# Altium integrated library lib_st.IntLib: 440 symbols (part 5 of 57)
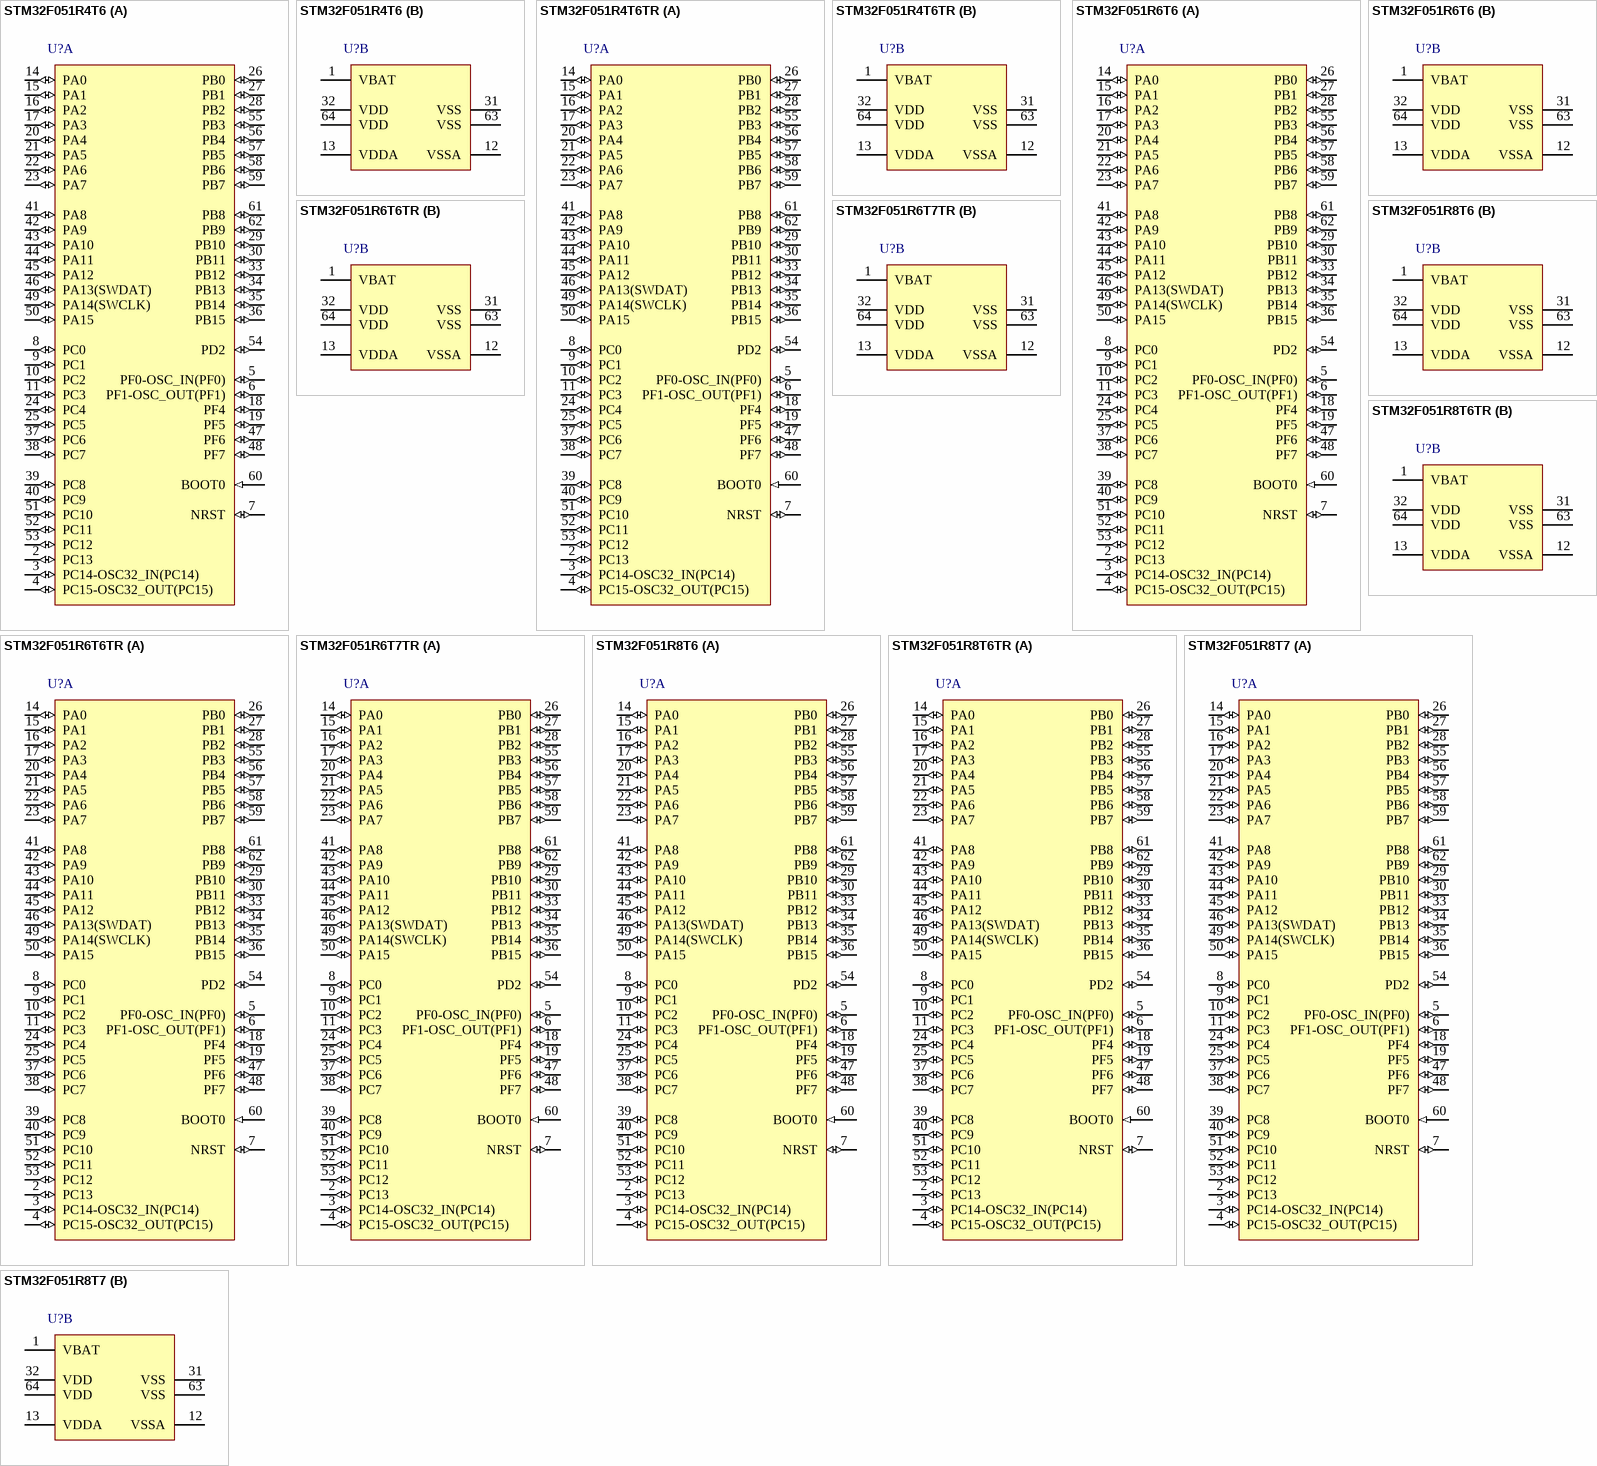
[diagram p93: symbols STM32F051R4T6 to STM32F051R8T7]

## STM32F051R8T7
designator U?
ARM Cortex-M0 32-bit MCU, 64 KB Flash, 8 KB Internal RAM, 55 I/Os, 64-pin LQFP, -40 to 105 degC, Tray; PartNumber: STM32F051R8T7; FLASH Size (Prog) (kB): 64; I/Os (High Current): 55; Internal RAM Size (kB): 8; Operating Frequency(F) (Processor speed) (MHz): 48; Supply Voltage(Vcc) min (V): 2; DatasheetVersion: Rev. 3; PackageVersion: Rev. 4, 06/2013; PackageReference: LQFP64; PackageDescription: 64-Pin Low Profile Quad Flat Package, 10 x 10 mm Body, 0.5 mm Pitch; Supplier 1: Digi-Key; Supplier Part Number 1: STM32F051R8T7-ND; Supplier 2: Farnell; Supplier Part Number 2: 2333352; Supplier 3: Newark; Supplier Part Number 3: 99W9761; Supplier 4: Newark; Supplier Part Number 4: 48W6868; Supplier 5: Mouser; Supplier Part Number 5: 511-STM32F051R8T7; Core: ARM Cortex-M0; Packing: Tray; Mounting Technology: Surface Mount; ComponentLink1Description: Manufacturer URL; ComponentLink1URL: http://www.st.com/web/en/home.html; ComponentLink2Description: Datasheet; ComponentLink2URL: http://www.st.com/st-web-ui/static/active/en/resource/technical/document/datasheet/DM00039193.pdf; ComponentLink3Description: Package Specification; ComponentLink3URL: http://www.st.com/st-web-ui/static/active/en/resource/technical/document/datasheet/DM00037051.pdf
footprint STM-LQFP64_N (Thin QFP, 64-Leads, Body 10x10mm, Pitch 0.5mm, IPC Medium Density)
footprint STM-LQFP64_L (Thin QFP, 64-Leads, Body 10x10mm, Pitch 0.5mm, IPC High Density)
footprint STM-LQFP64_M (Thin QFP, 64-Leads, Body 10x10mm, Pitch 0.5mm, IPC Low Density)
footprint STM-LQFP64_V (Thin QFP, 64-Leads, Body 10x10mm, Pitch 0.5mm, ST Recommended)
part A pins: 2 PC13 (io) "PC13/RTC_TAMP1,RTC_TS,RTC_OUT,WKUP2", 3 PC14-OSC32_IN(PC14) (io) "PC14-OSC32_IN(PC14)/OSC32_IN", 4 PC15-OSC32_OUT(PC15) (io) "PC15-OSC32_OUT(PC15)/OSC32_OUT", 5 PF0-OSC_IN(PF0) (io) "PF0-OSC_IN(PF0)/OSC_IN", 6 PF1-OSC_OUT(PF1) (io) "PF1-OSC_OUT(PF1)/OSC_OUT", 7 NRST (io) "Device reset input / internal reset output (active low)", 8 PC0 (io) "PB15/SPI2_MOSI,TIM1_CH3N,TIM15_CH1N,TIM15_CH2/RTC_REFIN", 9 PC1 (io) "PC1/EVENTOUT/ADC_IN11", 10 PC2 (io) "PC2/EVENTOUT/ADC_IN12", 11 PC3 (io) "PC3/EVENTOUT/ADC_IN13", 14 PA0 (io) "PA0/USART2_CTS,TIM2_CH1_ETR,COMP1_OUT,TSC_G1_IO1/ADC_IN0,COMP1_INM6,RTC_TAMP2,WKUP1", 15 PA1 (io) "PA1/USART2_RTS,TIM2_CH2,TSC_G1_IO2,EVENTOUT/ADC_IN1,COMP1_INP", 16 PA2 (io) "PA2/USART2_TX,TIM2_CH3,TIM15_CH1,COMP2_OUT,TSC_G1_IO3/ADC_IN2,COMP2_INM6", 17 PA3 (io) "PA3/USART2_RX,TIM2_CH4,TIM15_CH2,TSC_G1_IO4/ADC_IN3,COMP2_INP", 18 PF4 (io) "PF4/EVENTOUT", 19 PF5 (io) "PF5/EVENTOUT", 20 PA4 (io) "PA4/SPI1_NSS/I2S1_WS,USART2_CK,TIM14_CH1,TSC_G2_IO1/ADC_IN4,COMP1_INM4,COMP2_INM4,DAC1_OUT", 21 PA5 (io) "PA5/SPI1_SCK/I2S1_CK,CEC,TIM2_CH1_ETR,TSC_G2_IO2/ADC_IN5,COMP1_INM5,COMP2_INM5", 22 PA6 (io) "PA6/SPI1_MISO/I2S1_MCK,TIM3_CH1,TIM1_BKIN,TIM16_CH1,COMP1_OUT,TSC_G2_IO3,EVENTOUT/ADC_IN6", 23 PA7 (io) "PA7/SPI1_MOSI/I2S1_SD,TIM3_CH2,TIM14_CH1,TIM1_CH1N,TIM17_CH1,COMP2_OUT,TSC_G2_IO4,EVENTOUT/ADC_IN7", 24 PC4 (io) "PC4/EVENTOUT/ADC_IN14", 25 PC5 (io) "PC5/TSC_G3_IO1/ADC_IN15", 26 PB0 (io) "PB0/TIM3_CH3,TIM1_CH2N,TSC_G3_IO2,EVENTOUT/ADC_IN8", 27 PB1 (io) "PB1/TIM3_CH4,TIM14_CH1,TIM1_CH3N,TSC_G3_IO3/ADC_IN9", 28 PB2 (io) "PB2/TSC_G3_IO4", 29 PB10 (io) "PB10/I2C2_SCL,CEC,TIM2_CH3,TSC_SYNC", 30 PB11 (io) "PB11/I2C2_SDA,TIM2_CH4,TSC_G6_IO1,EVENTOUT", 33 PB12 (io) "PB8/I2C1_SCL,CEC,TIM16_CH1,TSC_SYNC", 34 PB13 (io) "PB12/SPI2_NSS,TIM1_BKIN,TSC_G6_IO2,EVENTOUT", 35 PB14 (io) "PB13/SPI2_SCK,TIM1_CH1N,TSC_G6_IO3", 36 PB15 (io) "PB14/SPI2_MISO,TIM1_CH2N,TIM15_CH1,TSC_G6_IO4", 37 PC6 (io) "PC6/TIM3_CH1", 38 PC7 (io) "PC7/TIM3_CH2", 39 PC8 (io) "PC8/TIM3_CH3", 40 PC9 (io) "PC9/TIM3_CH4", 41 PA8 (io) "PA8/USART1_CK,TIM1_CH1,EVENTOUT,MCO", 42 PA9 (io) "PA9/USART1_TX,TIM1_CH2,TIM15_BKIN,TSC_G4_IO1", 43 PA10 (io) "PA10/USART1_RX,TIM1_CH3,TIM17_BKIN,TSC_G4_IO2", 44 PA11 (io) "PA11/USART1_CTS,TIM1_CH4,COMP1_OUT,TSC_G4_IO3,EVENTOUT", 45 PA12 (io) "PA12/USART1_RTS,TIM1_ETR,COMP2_OUT,TSC_G4_IO4,EVENTOUT", 46 PA13(SWDAT) (io) "PA13(SWDAT)/IR_OUT,SWDAT", 47 PF6 (io) "PF6/I2C2_SCL", 48 PF7 (io) "PF7/I2C2_SDA", 49 PA14(SWCLK) (io) "PA14(SWCLK)/USART2_TX,SWCLK", 50 PA15 (io) "PA15/SPI1_NSS/I2S1_WS,USART2_RX,TIM2_CH1_ETR,EVENTOUT", 51 PC10 (io), 52 PC11 (io), 53 PC12 (io), 54 PD2 (io) "PD2/TIM3_ETR", 55 PB3 (io) "PB3/SPI1_SCK/I2S1_CK,TIM2_CH2,TSC_G5_IO1,EVENTOUT", 56 PB4 (io) "PB4/SPI1_MISO/I2S1_MCK,TIM3_CH1,TSC_G5_IO2,EVENTOUT", 57 PB5 (io) "PB5/SPI1_MOSI,I2S1_SD,I2C1_SMBA,TIM16_BKIN,TIM3_CH2", 58 PB6 (io) "PB6/I2C1_SCL,USART1_TX,TIM16_CH1N,TSC_G5_IO3", 59 PB7 (io) "PB7/I2C1_SDA,USART1_RX,TIM17_CH1N,TSC_G5_IO4", 60 BOOT0 (in) "Boot memory selection", 61 PB8 (io) "PB8/I2C1_SCL,CEC,TIM16_CH1,TSC_SYNC", 62 PB9 (io) "PB9/I2C1_SDA,IR_OUT,TIM17_CH1,EVENTOUT"
part B pins: 1 VBAT (power) "Backup power supply", 12 VSSA (power) "Analog ground", 13 VDDA (power) "Analog power supply", 31 VSS (power) "Ground", 32 VDD (power) "Digital power supply", 63 VSS (power) "Ground", 64 VDD (power) "Digital power supply"

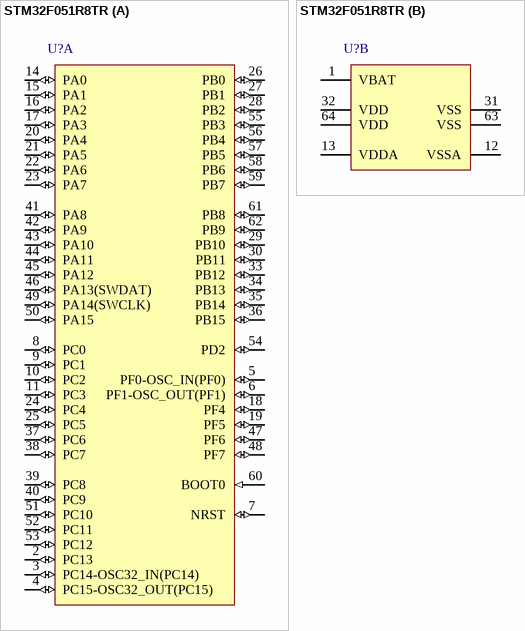
[diagram p6: symbol STM32F051R8TR]

## STM32F051R8TR
designator U?
ARM Cortex-M0 32-bit MCU, 64 KB Flash, 8 KB Internal RAM, 55 I/Os, 64-pin LQFP, -40 to 105 degC, Tape and Reel; PartNumber: STM32F051R8TR; FLASH Size (Prog) (kB): 64; I/Os (High Current): 55; Internal RAM Size (kB): 8; Operating Frequency(F) (Processor speed) (MHz): 48; Supply Voltage(Vcc) min (V): 2; DatasheetVersion: Rev. 3; PackageVersion: Rev. 4, 06/2013; PackageReference: LQFP64; PackageDescription: 64-Pin Low Profile Quad Flat Package, 10 x 10 mm Body, 0.5 mm Pitch; Core: ARM Cortex-M0; Packing: Tape and Reel; Mounting Technology: Surface Mount; ComponentLink1Description: Manufacturer URL; ComponentLink1URL: http://www.st.com/web/en/home.html; ComponentLink2Description: Datasheet; ComponentLink2URL: http://www.st.com/st-web-ui/static/active/en/resource/technical/document/datasheet/DM00039193.pdf; ComponentLink3Description: Package Specification; ComponentLink3URL: http://www.st.com/st-web-ui/static/active/en/resource/technical/document/datasheet/DM00037051.pdf
footprint STM-LQFP64_N (Thin QFP, 64-Leads, Body 10x10mm, Pitch 0.5mm, IPC Medium Density)
footprint STM-LQFP64_L (Thin QFP, 64-Leads, Body 10x10mm, Pitch 0.5mm, IPC High Density)
footprint STM-LQFP64_M (Thin QFP, 64-Leads, Body 10x10mm, Pitch 0.5mm, IPC Low Density)
footprint STM-LQFP64_V (Thin QFP, 64-Leads, Body 10x10mm, Pitch 0.5mm, ST Recommended)
part A pins: 2 PC13 (io) "PC13/RTC_TAMP1,RTC_TS,RTC_OUT,WKUP2", 3 PC14-OSC32_IN(PC14) (io) "PC14-OSC32_IN(PC14)/OSC32_IN", 4 PC15-OSC32_OUT(PC15) (io) "PC15-OSC32_OUT(PC15)/OSC32_OUT", 5 PF0-OSC_IN(PF0) (io) "PF0-OSC_IN(PF0)/OSC_IN", 6 PF1-OSC_OUT(PF1) (io) "PF1-OSC_OUT(PF1)/OSC_OUT", 7 NRST (io) "Device reset input / internal reset output (active low)", 8 PC0 (io) "PB15/SPI2_MOSI,TIM1_CH3N,TIM15_CH1N,TIM15_CH2/RTC_REFIN", 9 PC1 (io) "PC1/EVENTOUT/ADC_IN11", 10 PC2 (io) "PC2/EVENTOUT/ADC_IN12", 11 PC3 (io) "PC3/EVENTOUT/ADC_IN13", 14 PA0 (io) "PA0/USART2_CTS,TIM2_CH1_ETR,COMP1_OUT,TSC_G1_IO1/ADC_IN0,COMP1_INM6,RTC_TAMP2,WKUP1", 15 PA1 (io) "PA1/USART2_RTS,TIM2_CH2,TSC_G1_IO2,EVENTOUT/ADC_IN1,COMP1_INP", 16 PA2 (io) "PA2/USART2_TX,TIM2_CH3,TIM15_CH1,COMP2_OUT,TSC_G1_IO3/ADC_IN2,COMP2_INM6", 17 PA3 (io) "PA3/USART2_RX,TIM2_CH4,TIM15_CH2,TSC_G1_IO4/ADC_IN3,COMP2_INP", 18 PF4 (io) "PF4/EVENTOUT", 19 PF5 (io) "PF5/EVENTOUT", 20 PA4 (io) "PA4/SPI1_NSS/I2S1_WS,USART2_CK,TIM14_CH1,TSC_G2_IO1/ADC_IN4,COMP1_INM4,COMP2_INM4,DAC1_OUT", 21 PA5 (io) "PA5/SPI1_SCK/I2S1_CK,CEC,TIM2_CH1_ETR,TSC_G2_IO2/ADC_IN5,COMP1_INM5,COMP2_INM5", 22 PA6 (io) "PA6/SPI1_MISO/I2S1_MCK,TIM3_CH1,TIM1_BKIN,TIM16_CH1,COMP1_OUT,TSC_G2_IO3,EVENTOUT/ADC_IN6", 23 PA7 (io) "PA7/SPI1_MOSI/I2S1_SD,TIM3_CH2,TIM14_CH1,TIM1_CH1N,TIM17_CH1,COMP2_OUT,TSC_G2_IO4,EVENTOUT/ADC_IN7", 24 PC4 (io) "PC4/EVENTOUT/ADC_IN14", 25 PC5 (io) "PC5/TSC_G3_IO1/ADC_IN15", 26 PB0 (io) "PB0/TIM3_CH3,TIM1_CH2N,TSC_G3_IO2,EVENTOUT/ADC_IN8", 27 PB1 (io) "PB1/TIM3_CH4,TIM14_CH1,TIM1_CH3N,TSC_G3_IO3/ADC_IN9", 28 PB2 (io) "PB2/TSC_G3_IO4", 29 PB10 (io) "PB10/I2C2_SCL,CEC,TIM2_CH3,TSC_SYNC", 30 PB11 (io) "PB11/I2C2_SDA,TIM2_CH4,TSC_G6_IO1,EVENTOUT", 33 PB12 (io) "PB8/I2C1_SCL,CEC,TIM16_CH1,TSC_SYNC", 34 PB13 (io) "PB12/SPI2_NSS,TIM1_BKIN,TSC_G6_IO2,EVENTOUT", 35 PB14 (io) "PB13/SPI2_SCK,TIM1_CH1N,TSC_G6_IO3", 36 PB15 (io) "PB14/SPI2_MISO,TIM1_CH2N,TIM15_CH1,TSC_G6_IO4", 37 PC6 (io) "PC6/TIM3_CH1", 38 PC7 (io) "PC7/TIM3_CH2", 39 PC8 (io) "PC8/TIM3_CH3", 40 PC9 (io) "PC9/TIM3_CH4", 41 PA8 (io) "PA8/USART1_CK,TIM1_CH1,EVENTOUT,MCO", 42 PA9 (io) "PA9/USART1_TX,TIM1_CH2,TIM15_BKIN,TSC_G4_IO1", 43 PA10 (io) "PA10/USART1_RX,TIM1_CH3,TIM17_BKIN,TSC_G4_IO2", 44 PA11 (io) "PA11/USART1_CTS,TIM1_CH4,COMP1_OUT,TSC_G4_IO3,EVENTOUT", 45 PA12 (io) "PA12/USART1_RTS,TIM1_ETR,COMP2_OUT,TSC_G4_IO4,EVENTOUT", 46 PA13(SWDAT) (io) "PA13(SWDAT)/IR_OUT,SWDAT", 47 PF6 (io) "PF6/I2C2_SCL", 48 PF7 (io) "PF7/I2C2_SDA", 49 PA14(SWCLK) (io) "PA14(SWCLK)/USART2_TX,SWCLK", 50 PA15 (io) "PA15/SPI1_NSS/I2S1_WS,USART2_RX,TIM2_CH1_ETR,EVENTOUT", 51 PC10 (io), 52 PC11 (io), 53 PC12 (io), 54 PD2 (io) "PD2/TIM3_ETR", 55 PB3 (io) "PB3/SPI1_SCK/I2S1_CK,TIM2_CH2,TSC_G5_IO1,EVENTOUT", 56 PB4 (io) "PB4/SPI1_MISO/I2S1_MCK,TIM3_CH1,TSC_G5_IO2,EVENTOUT", 57 PB5 (io) "PB5/SPI1_MOSI,I2S1_SD,I2C1_SMBA,TIM16_BKIN,TIM3_CH2", 58 PB6 (io) "PB6/I2C1_SCL,USART1_TX,TIM16_CH1N,TSC_G5_IO3", 59 PB7 (io) "PB7/I2C1_SDA,USART1_RX,TIM17_CH1N,TSC_G5_IO4", 60 BOOT0 (in) "Boot memory selection", 61 PB8 (io) "PB8/I2C1_SCL,CEC,TIM16_CH1,TSC_SYNC", 62 PB9 (io) "PB9/I2C1_SDA,IR_OUT,TIM17_CH1,EVENTOUT"
part B pins: 1 VBAT (power) "Backup power supply", 12 VSSA (power) "Analog ground", 13 VDDA (power) "Analog power supply", 31 VSS (power) "Ground", 32 VDD (power) "Digital power supply", 63 VSS (power) "Ground", 64 VDD (power) "Digital power supply"


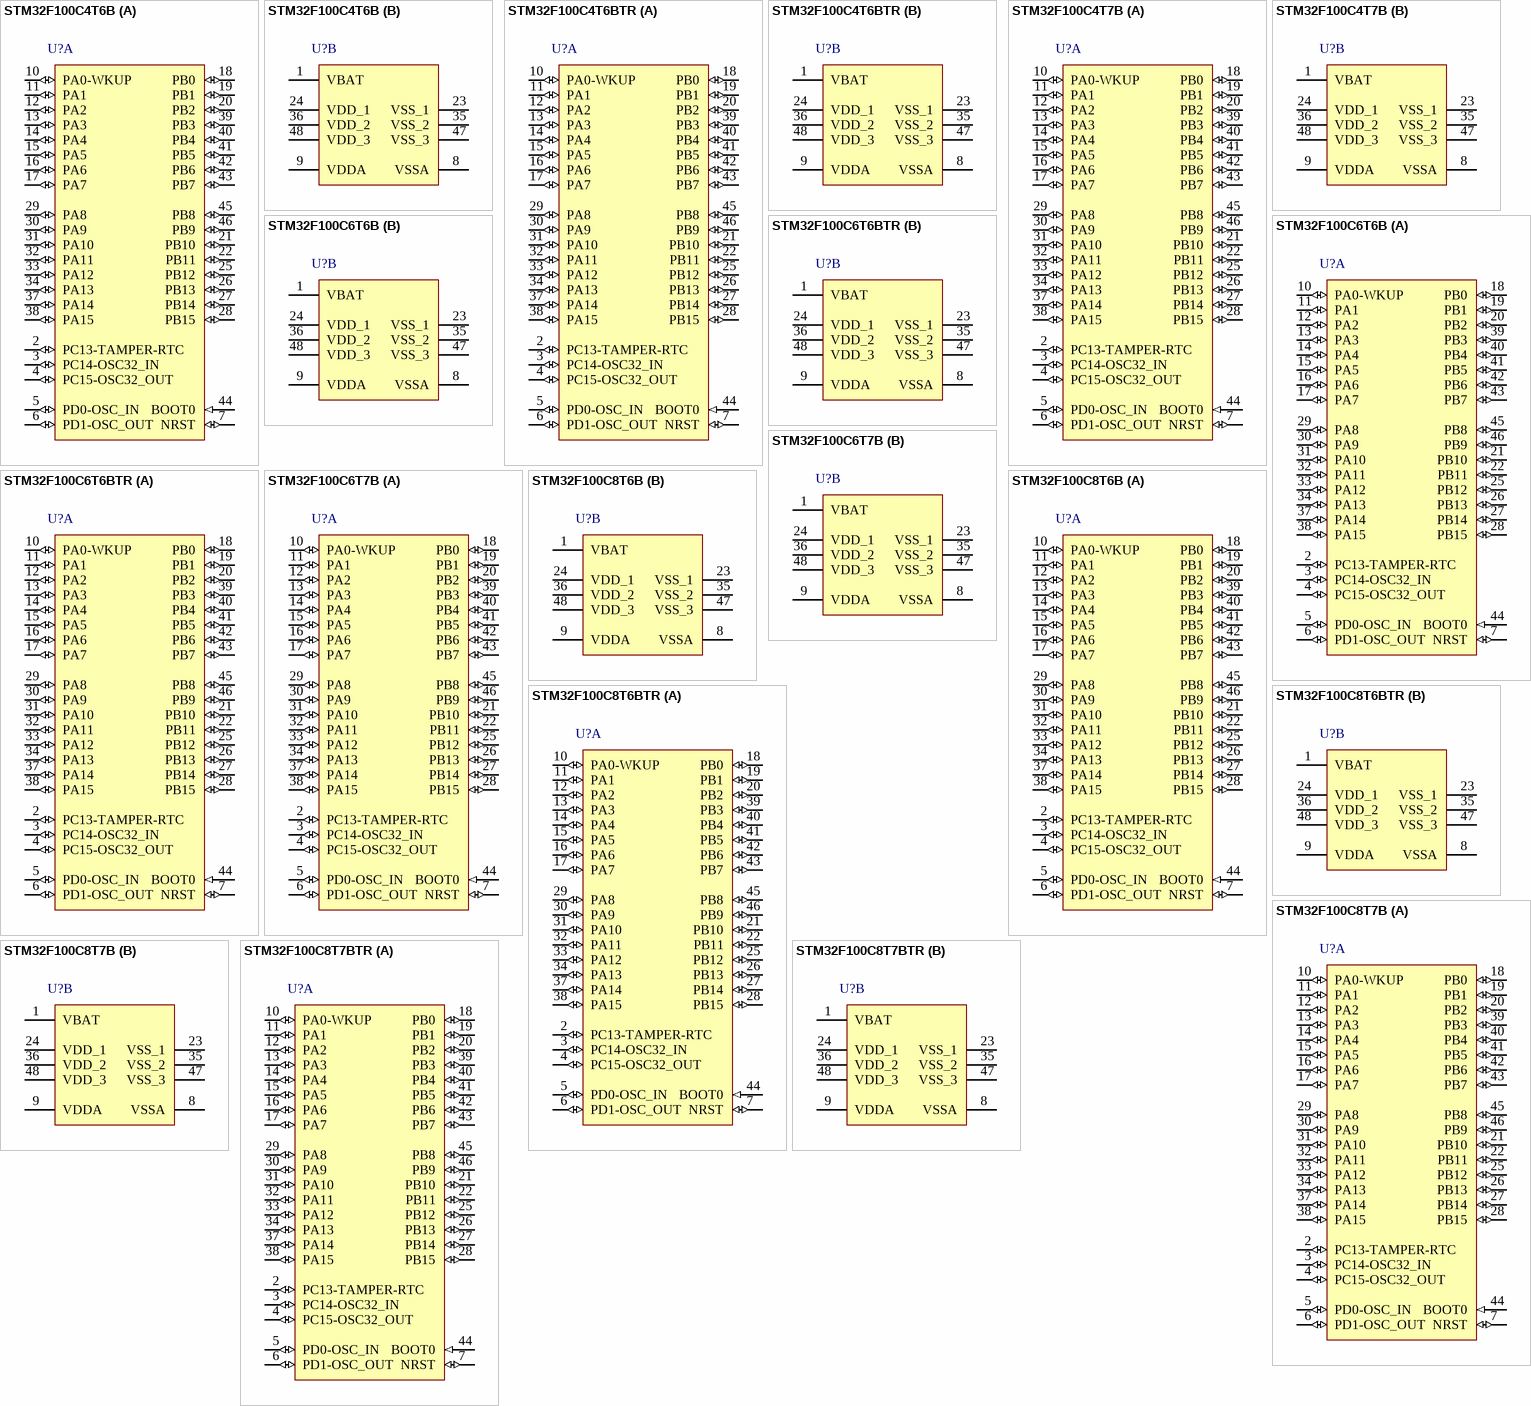
[diagram p7: symbols STM32F100C4T6B to STM32F100C8T7BTR]

## STM32F100C4T6B
designator U?
ARM Cortex-M3 32-bit MCU, 16 KB Flash, 4 KB Internal RAM, 37 I/Os, 48-pin LQFP, -40 to 85 degC, Tray; PartNumber: STM32F100C4T6B; A/D Converter: 1x12-bit (10 Channel); D/A Converter: 2x12-bit (2 Channel); FLASH Size (Prog) (kB): 16; I/Os (High Current): 37; Internal RAM Size (kB): 4; Operating Frequency(F) (Processor speed) (MHz): 24; Supply Voltage(Vcc) min (V): 2; DatasheetVersion: Rev. 7; PackageVersion: Rev. 6, 06/2013; PackageReference: LQFP48; PackageDescription: 48-Pin Low Profile Quad Flat Package, 7 x 7 mm Body, 0.5 mm Pitch; Supplier 1: Digi-Key; Supplier Part Number 1: 497-10501-ND; Supplier 2: Farnell; Supplier Part Number 2: 1838504; Supplier 3: Newark; Supplier Part Number 3: 86R1309; Supplier 4: Newark; Supplier Part Number 4: 76R0986; Supplier 5: Mouser; Supplier Part Number 5: 511-STM32F100C4T6B; Core: ARM Cortex-M3; Packing: Tray; Mounting Technology: Surface Mount; ComponentLink1Description: Manufacturer URL; ComponentLink1URL: http://www.st.com/web/en/home.html; ComponentLink2Description: Datasheet; ComponentLink2URL: http://www.st.com/st-web-ui/static/active/en/resource/technical/document/datasheet/CD00251732.pdf; ComponentLink3Description: Package Specification; ComponentLink3URL: http://www.st.com/st-web-ui/static/active/en/resource/technical/document/datasheet/DM00058181.pdf
footprint STM-LQFP48_N (QFP, 48-Leads, Body 7x7mm, Pitch 0.5mm, IPC Medium Density)
footprint STM-LQFP48_L (QFP, 48-Leads, Body 7x7mm, Pitch 0.5mm, IPC High Density)
footprint STM-LQFP48_M (QFP, 48-Leads, Body 7x7mm, Pitch 0.5mm, IPC Low Density)
part A pins: 2 PC13-TAMPER-RTC (io) "PC13-TAMPER-RTC/PC13/TAMPER-RTC", 3 PC14-OSC32_IN (io) "PC14-OSC32_IN/PC14/OSC32_IN", 4 PC15-OSC32_OUT (io) "PC15-OSC32_OUT/PC15/OSC32_OUT", 5 PD0-OSC_IN (io) "PD0/OSC_IN", 6 PD1-OSC_OUT (io) "PD1/OSC_OUT", 7 NRST (io), 10 PA0-WKUP (io) "PA0-WKUP/PA0/WKUP/USART2_CTS/ADC1_IN0/TIM2_CH1_ETR", 11 PA1 (io) "PA1/USART2_RTS/ADC1_IN1/TIM2_CH2", 12 PA2 (io) "PA2/USART2_TX/ADC1_IN2/TIM2_CH3/TIM15_CH1", 13 PA3 (io) "PA3/USART2_RX/ADC1_IN3/TIM2_CH4/TIM15_CH2", 14 PA4 (io) "PA4/SPI1_NSS/ADC1_IN4/USART2_CK/DAC1_OUT", 15 PA5 (io) "PA5/SPI1_SCK/ADC1_IN5/DAC2_OUT", 16 PA6 (io) "PA6/SPI1_MISO/ADC1_IN6/TIM3_CH1/TIM1_BKIN/TIM16_CH1", 17 PA7 (io) "PA7/SPI1_MOSI/ADC1_IN7/TIM3_CH2/TIM1_CH1N/TIM17_CH1", 18 PB0 (io) "PB0/ADC1_IN8/TIM3_CH3/TIM1_CH2N", 19 PB1 (io) "PB1/ADC1_IN9/TIM3_CH4/TIM1_CH3N", 20 PB2 (io) "PB2/BOOT1", 21 PB10 (io) "PB10/I2C2_SCL/USART3_TX/TIM2_CH3/HDMI_CEC", 22 PB11 (io) "PB11/I2C2_SDA/USART3_RX/TIM2_CH4", 25 PB12 (io) "PB12/SPI2_NSS/I2C2_SMBA/TIM1_BKIN/USART3_CK", 26 PB13 (io) "PB13/SPI2_SCK/TIM1_CH1N/USART3_CTS", 27 PB14 (io) "PB14/SPI2_MISO/TIM1_CH2N/USART3_RTS/TIM15_CH1", 28 PB15 (io) "PB15/SPI2_MOSI/TIM1_CH3N/TIM15_CH1N/TIM15_CH2", 29 PA8 (io) "PA8/USART1_CK/MCO/TIM1_CH1", 30 PA9 (io) "PA9/USART1_TX/TIM1_CH2/TIM15_BKIN", 31 PA10 (io) "PA10/USART1_RX/TIM1_CH3/TIM17_BKIN", 32 PA11 (io) "PA11/USART1_CTS/TIM1_CH4", 33 PA12 (io) "PA12/USART1_RTS/TIM1_ETR", 34 PA13 (io) "PA13/JTMS-SWDIO", 37 PA14 (io) "PA14/JTCK/SWCLK", 38 PA15 (io) "PA15/JTDI/TIM2_CH1_ETR/SPI1_NSS", 39 PB3 (io) "PB3/JTDO/TIM2_CH2/TRACESWO/SPI1_SCK", 40 PB4 (io) "PB4/NJTRST/TIM3_CH1/SPI1_MISO", 41 PB5 (io) "PB5/I2C1_SMBA/TIM16_BKIN/TIM3_CH2/SPI1_MOSI", 42 PB6 (io) "PB6/I2C1_SCL/TIM4_CH1/TIM16_CH1N/USART1_TX", 43 PB7 (io) "PB7/I2C1_SDA/TIM17_CH1N/TIM4_CH2/USART1_RX", 44 BOOT0 (in), 45 PB8 (io) "PB8/TIM4_CH3/TIM16_CH1/CEC/I2C1_SCL", 46 PB9 (io) "PB9/TIM4_CH4/TIM17_CH1/I2C1_SDA"
part B pins: 1 VBAT (power), 8 VSSA (power), 9 VDDA (power), 23 VSS_1 (power), 24 VDD_1 (power), 35 VSS_2 (power), 36 VDD_2 (power), 47 VSS_3 (power), 48 VDD_3 (power)

## STM32F100C4T6BTR
designator U?
ARM Cortex-M3 32-bit MCU, 16 KB Flash, 4 KB Internal RAM, 37 I/Os, 48-pin LQFP, -40 to 85 degC, Tape and Reel; PartNumber: STM32F100C4T6BTR; A/D Converter: 1x12-bit (10 Channel); D/A Converter: 2x12-bit (2 Channel); FLASH Size (Prog) (kB): 16; I/Os (High Current): 37; Internal RAM Size (kB): 4; Operating Frequency(F) (Processor speed) (MHz): 24; Supply Voltage(Vcc) min (V): 2; DatasheetVersion: Rev. 7; PackageVersion: Rev. 6, 06/2013; PackageReference: LQFP48; PackageDescription: 48-Pin Low Profile Quad Flat Package, 7 x 7 mm Body, 0.5 mm Pitch; Supplier 1: Digi-Key; Supplier Part Number 1: STM32F100C4T6BTR-ND; Supplier 2: Newark; Supplier Part Number 2: 66W7277; Supplier 3: Mouser; Supplier Part Number 3: 511-STM32F100C4T6BTR; Core: ARM Cortex-M3; Packing: Tape and Reel; Mounting Technology: Surface Mount; ComponentLink1Description: Manufacturer URL; ComponentLink1URL: http://www.st.com/web/en/home.html; ComponentLink2Description: Datasheet; ComponentLink2URL: http://www.st.com/st-web-ui/static/active/en/resource/technical/document/datasheet/CD00251732.pdf; ComponentLink3Description: Package Specification; ComponentLink3URL: http://www.st.com/st-web-ui/static/active/en/resource/technical/document/datasheet/DM00058181.pdf
footprint STM-LQFP48_N (QFP, 48-Leads, Body 7x7mm, Pitch 0.5mm, IPC Medium Density)
footprint STM-LQFP48_L (QFP, 48-Leads, Body 7x7mm, Pitch 0.5mm, IPC High Density)
footprint STM-LQFP48_M (QFP, 48-Leads, Body 7x7mm, Pitch 0.5mm, IPC Low Density)
part A pins: 2 PC13-TAMPER-RTC (io) "PC13-TAMPER-RTC/PC13/TAMPER-RTC", 3 PC14-OSC32_IN (io) "PC14-OSC32_IN/PC14/OSC32_IN", 4 PC15-OSC32_OUT (io) "PC15-OSC32_OUT/PC15/OSC32_OUT", 5 PD0-OSC_IN (io) "PD0/OSC_IN", 6 PD1-OSC_OUT (io) "PD1/OSC_OUT", 7 NRST (io), 10 PA0-WKUP (io) "PA0-WKUP/PA0/WKUP/USART2_CTS/ADC1_IN0/TIM2_CH1_ETR", 11 PA1 (io) "PA1/USART2_RTS/ADC1_IN1/TIM2_CH2", 12 PA2 (io) "PA2/USART2_TX/ADC1_IN2/TIM2_CH3/TIM15_CH1", 13 PA3 (io) "PA3/USART2_RX/ADC1_IN3/TIM2_CH4/TIM15_CH2", 14 PA4 (io) "PA4/SPI1_NSS/ADC1_IN4/USART2_CK/DAC1_OUT", 15 PA5 (io) "PA5/SPI1_SCK/ADC1_IN5/DAC2_OUT", 16 PA6 (io) "PA6/SPI1_MISO/ADC1_IN6/TIM3_CH1/TIM1_BKIN/TIM16_CH1", 17 PA7 (io) "PA7/SPI1_MOSI/ADC1_IN7/TIM3_CH2/TIM1_CH1N/TIM17_CH1", 18 PB0 (io) "PB0/ADC1_IN8/TIM3_CH3/TIM1_CH2N", 19 PB1 (io) "PB1/ADC1_IN9/TIM3_CH4/TIM1_CH3N", 20 PB2 (io) "PB2/BOOT1", 21 PB10 (io) "PB10/I2C2_SCL/USART3_TX/TIM2_CH3/HDMI_CEC", 22 PB11 (io) "PB11/I2C2_SDA/USART3_RX/TIM2_CH4", 25 PB12 (io) "PB12/SPI2_NSS/I2C2_SMBA/TIM1_BKIN/USART3_CK", 26 PB13 (io) "PB13/SPI2_SCK/TIM1_CH1N/USART3_CTS", 27 PB14 (io) "PB14/SPI2_MISO/TIM1_CH2N/USART3_RTS/TIM15_CH1", 28 PB15 (io) "PB15/SPI2_MOSI/TIM1_CH3N/TIM15_CH1N/TIM15_CH2", 29 PA8 (io) "PA8/USART1_CK/MCO/TIM1_CH1", 30 PA9 (io) "PA9/USART1_TX/TIM1_CH2/TIM15_BKIN", 31 PA10 (io) "PA10/USART1_RX/TIM1_CH3/TIM17_BKIN", 32 PA11 (io) "PA11/USART1_CTS/TIM1_CH4", 33 PA12 (io) "PA12/USART1_RTS/TIM1_ETR", 34 PA13 (io) "PA13/JTMS-SWDIO", 37 PA14 (io) "PA14/JTCK/SWCLK", 38 PA15 (io) "PA15/JTDI/TIM2_CH1_ETR/SPI1_NSS", 39 PB3 (io) "PB3/JTDO/TIM2_CH2/TRACESWO/SPI1_SCK", 40 PB4 (io) "PB4/NJTRST/TIM3_CH1/SPI1_MISO", 41 PB5 (io) "PB5/I2C1_SMBA/TIM16_BKIN/TIM3_CH2/SPI1_MOSI", 42 PB6 (io) "PB6/I2C1_SCL/TIM4_CH1/TIM16_CH1N/USART1_TX", 43 PB7 (io) "PB7/I2C1_SDA/TIM17_CH1N/TIM4_CH2/USART1_RX", 44 BOOT0 (in), 45 PB8 (io) "PB8/TIM4_CH3/TIM16_CH1/CEC/I2C1_SCL", 46 PB9 (io) "PB9/TIM4_CH4/TIM17_CH1/I2C1_SDA"
part B pins: 1 VBAT (power), 8 VSSA (power), 9 VDDA (power), 23 VSS_1 (power), 24 VDD_1 (power), 35 VSS_2 (power), 36 VDD_2 (power), 47 VSS_3 (power), 48 VDD_3 (power)

## STM32F100C4T7B
designator U?
ARM Cortex-M3 32-bit MCU, 16 KB Flash, 4 KB Internal RAM, 37 I/Os, 48-pin LQFP, -40 to 105 degC, Tray; PartNumber: STM32F100C4T7B; A/D Converter: 1x12-bit (10 Channel); D/A Converter: 2x12-bit (2 Channel); FLASH Size (Prog) (kB): 16; I/Os (High Current): 37; Internal RAM Size (kB): 4; Operating Frequency(F) (Processor speed) (MHz): 24; Supply Voltage(Vcc) min (V): 2; DatasheetVersion: Rev. 7; PackageVersion: Rev. 6, 06/2013; PackageReference: LQFP48; PackageDescription: 48-Pin Low Profile Quad Flat Package, 7 x 7 mm Body, 0.5 mm Pitch; Supplier 1: Digi-Key; Supplier Part Number 1: STM32F100C4T7B-ND; Supplier 2: Farnell; Supplier Part Number 2: 2060879; Supplier 3: Newark; Supplier Part Number 3: 65T3764; Supplier 4: Newark; Supplier Part Number 4: 66W7278; Supplier 5: Mouser; Supplier Part Number 5: 511-STM32F100C4T7B; Core: ARM Cortex-M3; Packing: Tray; Mounting Technology: Surface Mount; ComponentLink1Description: Manufacturer URL; ComponentLink1URL: http://www.st.com/web/en/home.html; ComponentLink2Description: Datasheet; ComponentLink2URL: http://www.st.com/st-web-ui/static/active/en/resource/technical/document/datasheet/CD00251732.pdf; ComponentLink3Description: Package Specification; ComponentLink3URL: http://www.st.com/st-web-ui/static/active/en/resource/technical/document/datasheet/DM00058181.pdf
footprint STM-LQFP48_N (QFP, 48-Leads, Body 7x7mm, Pitch 0.5mm, IPC Medium Density)
footprint STM-LQFP48_L (QFP, 48-Leads, Body 7x7mm, Pitch 0.5mm, IPC High Density)
footprint STM-LQFP48_M (QFP, 48-Leads, Body 7x7mm, Pitch 0.5mm, IPC Low Density)
part A pins: 2 PC13-TAMPER-RTC (io) "PC13-TAMPER-RTC/PC13/TAMPER-RTC", 3 PC14-OSC32_IN (io) "PC14-OSC32_IN/PC14/OSC32_IN", 4 PC15-OSC32_OUT (io) "PC15-OSC32_OUT/PC15/OSC32_OUT", 5 PD0-OSC_IN (io) "PD0/OSC_IN", 6 PD1-OSC_OUT (io) "PD1/OSC_OUT", 7 NRST (io), 10 PA0-WKUP (io) "PA0-WKUP/PA0/WKUP/USART2_CTS/ADC1_IN0/TIM2_CH1_ETR", 11 PA1 (io) "PA1/USART2_RTS/ADC1_IN1/TIM2_CH2", 12 PA2 (io) "PA2/USART2_TX/ADC1_IN2/TIM2_CH3/TIM15_CH1", 13 PA3 (io) "PA3/USART2_RX/ADC1_IN3/TIM2_CH4/TIM15_CH2", 14 PA4 (io) "PA4/SPI1_NSS/ADC1_IN4/USART2_CK/DAC1_OUT", 15 PA5 (io) "PA5/SPI1_SCK/ADC1_IN5/DAC2_OUT", 16 PA6 (io) "PA6/SPI1_MISO/ADC1_IN6/TIM3_CH1/TIM1_BKIN/TIM16_CH1", 17 PA7 (io) "PA7/SPI1_MOSI/ADC1_IN7/TIM3_CH2/TIM1_CH1N/TIM17_CH1", 18 PB0 (io) "PB0/ADC1_IN8/TIM3_CH3/TIM1_CH2N", 19 PB1 (io) "PB1/ADC1_IN9/TIM3_CH4/TIM1_CH3N", 20 PB2 (io) "PB2/BOOT1", 21 PB10 (io) "PB10/I2C2_SCL/USART3_TX/TIM2_CH3/HDMI_CEC", 22 PB11 (io) "PB11/I2C2_SDA/USART3_RX/TIM2_CH4", 25 PB12 (io) "PB12/SPI2_NSS/I2C2_SMBA/TIM1_BKIN/USART3_CK", 26 PB13 (io) "PB13/SPI2_SCK/TIM1_CH1N/USART3_CTS", 27 PB14 (io) "PB14/SPI2_MISO/TIM1_CH2N/USART3_RTS/TIM15_CH1", 28 PB15 (io) "PB15/SPI2_MOSI/TIM1_CH3N/TIM15_CH1N/TIM15_CH2", 29 PA8 (io) "PA8/USART1_CK/MCO/TIM1_CH1", 30 PA9 (io) "PA9/USART1_TX/TIM1_CH2/TIM15_BKIN", 31 PA10 (io) "PA10/USART1_RX/TIM1_CH3/TIM17_BKIN", 32 PA11 (io) "PA11/USART1_CTS/TIM1_CH4", 33 PA12 (io) "PA12/USART1_RTS/TIM1_ETR", 34 PA13 (io) "PA13/JTMS-SWDIO", 37 PA14 (io) "PA14/JTCK/SWCLK", 38 PA15 (io) "PA15/JTDI/TIM2_CH1_ETR/SPI1_NSS", 39 PB3 (io) "PB3/JTDO/TIM2_CH2/TRACESWO/SPI1_SCK", 40 PB4 (io) "PB4/NJTRST/TIM3_CH1/SPI1_MISO", 41 PB5 (io) "PB5/I2C1_SMBA/TIM16_BKIN/TIM3_CH2/SPI1_MOSI", 42 PB6 (io) "PB6/I2C1_SCL/TIM4_CH1/TIM16_CH1N/USART1_TX", 43 PB7 (io) "PB7/I2C1_SDA/TIM17_CH1N/TIM4_CH2/USART1_RX", 44 BOOT0 (in), 45 PB8 (io) "PB8/TIM4_CH3/TIM16_CH1/CEC/I2C1_SCL", 46 PB9 (io) "PB9/TIM4_CH4/TIM17_CH1/I2C1_SDA"
part B pins: 1 VBAT (power), 8 VSSA (power), 9 VDDA (power), 23 VSS_1 (power), 24 VDD_1 (power), 35 VSS_2 (power), 36 VDD_2 (power), 47 VSS_3 (power), 48 VDD_3 (power)

## STM32F100C6T6B
designator U?
ARM Cortex-M3 32-bit MCU, 32 KB Flash, 4 KB Internal RAM, 37 I/Os, 48-pin LQFP, -40 to 85 degC, Tray; PartNumber: STM32F100C6T6B; A/D Converter: 1x12-bit (10 Channel); D/A Converter: 2x12-bit (2 Channel); FLASH Size (Prog) (kB): 32; I/Os (High Current): 37; Internal RAM Size (kB): 4; Operating Frequency(F) (Processor speed) (MHz): 24; Supply Voltage(Vcc) min (V): 2; DatasheetVersion: Rev. 7; PackageVersion: Rev. 6, 06/2013; PackageReference: LQFP48; PackageDescription: 48-Pin Low Profile Quad Flat Package, 7 x 7 mm Body, 0.5 mm Pitch; Supplier 1: Digi-Key; Supplier Part Number 1: 497-10500-ND; Supplier 2: Farnell; Supplier Part Number 2: 1838510; Supplier 3: Newark; Supplier Part Number 3: 86R1310; Supplier 4: Newark; Supplier Part Number 4: 76R0987; Supplier 5: Mouser; Supplier Part Number 5: 511-STM32F100C6T6B; Core: ARM Cortex-M3; Packing: Tray; Mounting Technology: Surface Mount; ComponentLink1Description: Manufacturer URL; ComponentLink1URL: http://www.st.com/web/en/home.html; ComponentLink2Description: Datasheet; ComponentLink2URL: http://www.st.com/st-web-ui/static/active/en/resource/technical/document/datasheet/CD00251732.pdf; ComponentLink3Description: Package Specification; ComponentLink3URL: http://www.st.com/st-web-ui/static/active/en/resource/technical/document/datasheet/DM00058181.pdf
footprint STM-LQFP48_N (QFP, 48-Leads, Body 7x7mm, Pitch 0.5mm, IPC Medium Density)
footprint STM-LQFP48_L (QFP, 48-Leads, Body 7x7mm, Pitch 0.5mm, IPC High Density)
footprint STM-LQFP48_M (QFP, 48-Leads, Body 7x7mm, Pitch 0.5mm, IPC Low Density)
part A pins: 2 PC13-TAMPER-RTC (io) "PC13-TAMPER-RTC/PC13/TAMPER-RTC", 3 PC14-OSC32_IN (io) "PC14-OSC32_IN/PC14/OSC32_IN", 4 PC15-OSC32_OUT (io) "PC15-OSC32_OUT/PC15/OSC32_OUT", 5 PD0-OSC_IN (io) "PD0/OSC_IN", 6 PD1-OSC_OUT (io) "PD1/OSC_OUT", 7 NRST (io), 10 PA0-WKUP (io) "PA0-WKUP/PA0/WKUP/USART2_CTS/ADC1_IN0/TIM2_CH1_ETR", 11 PA1 (io) "PA1/USART2_RTS/ADC1_IN1/TIM2_CH2", 12 PA2 (io) "PA2/USART2_TX/ADC1_IN2/TIM2_CH3/TIM15_CH1", 13 PA3 (io) "PA3/USART2_RX/ADC1_IN3/TIM2_CH4/TIM15_CH2", 14 PA4 (io) "PA4/SPI1_NSS/ADC1_IN4/USART2_CK/DAC1_OUT", 15 PA5 (io) "PA5/SPI1_SCK/ADC1_IN5/DAC2_OUT", 16 PA6 (io) "PA6/SPI1_MISO/ADC1_IN6/TIM3_CH1/TIM1_BKIN/TIM16_CH1", 17 PA7 (io) "PA7/SPI1_MOSI/ADC1_IN7/TIM3_CH2/TIM1_CH1N/TIM17_CH1", 18 PB0 (io) "PB0/ADC1_IN8/TIM3_CH3/TIM1_CH2N", 19 PB1 (io) "PB1/ADC1_IN9/TIM3_CH4/TIM1_CH3N", 20 PB2 (io) "PB2/BOOT1", 21 PB10 (io) "PB10/I2C2_SCL/USART3_TX/TIM2_CH3/HDMI_CEC", 22 PB11 (io) "PB11/I2C2_SDA/USART3_RX/TIM2_CH4", 25 PB12 (io) "PB12/SPI2_NSS/I2C2_SMBA/TIM1_BKIN/USART3_CK", 26 PB13 (io) "PB13/SPI2_SCK/TIM1_CH1N/USART3_CTS", 27 PB14 (io) "PB14/SPI2_MISO/TIM1_CH2N/USART3_RTS/TIM15_CH1", 28 PB15 (io) "PB15/SPI2_MOSI/TIM1_CH3N/TIM15_CH1N/TIM15_CH2", 29 PA8 (io) "PA8/USART1_CK/MCO/TIM1_CH1", 30 PA9 (io) "PA9/USART1_TX/TIM1_CH2/TIM15_BKIN", 31 PA10 (io) "PA10/USART1_RX/TIM1_CH3/TIM17_BKIN", 32 PA11 (io) "PA11/USART1_CTS/TIM1_CH4", 33 PA12 (io) "PA12/USART1_RTS/TIM1_ETR", 34 PA13 (io) "PA13/JTMS-SWDIO", 37 PA14 (io) "PA14/JTCK/SWCLK", 38 PA15 (io) "PA15/JTDI/TIM2_CH1_ETR/SPI1_NSS", 39 PB3 (io) "PB3/JTDO/TIM2_CH2/TRACESWO/SPI1_SCK", 40 PB4 (io) "PB4/NJTRST/TIM3_CH1/SPI1_MISO", 41 PB5 (io) "PB5/I2C1_SMBA/TIM16_BKIN/TIM3_CH2/SPI1_MOSI", 42 PB6 (io) "PB6/I2C1_SCL/TIM4_CH1/TIM16_CH1N/USART1_TX", 43 PB7 (io) "PB7/I2C1_SDA/TIM17_CH1N/TIM4_CH2/USART1_RX", 44 BOOT0 (in), 45 PB8 (io) "PB8/TIM4_CH3/TIM16_CH1/CEC/I2C1_SCL", 46 PB9 (io) "PB9/TIM4_CH4/TIM17_CH1/I2C1_SDA"
part B pins: 1 VBAT (power), 8 VSSA (power), 9 VDDA (power), 23 VSS_1 (power), 24 VDD_1 (power), 35 VSS_2 (power), 36 VDD_2 (power), 47 VSS_3 (power), 48 VDD_3 (power)

## STM32F100C6T6BTR
designator U?
ARM Cortex-M3 32-bit MCU, 32 KB Flash, 4 KB Internal RAM, 37 I/Os, 48-pin LQFP, -40 to 85 degC, Tape and Reel; PartNumber: STM32F100C6T6BTR; A/D Converter: 1x12-bit (10 Channel); D/A Converter: 2x12-bit (2 Channel); FLASH Size (Prog) (kB): 32; I/Os (High Current): 37; Internal RAM Size (kB): 4; Operating Frequency(F) (Processor speed) (MHz): 24; Supply Voltage(Vcc) min (V): 2; DatasheetVersion: Rev. 7; PackageVersion: Rev. 6, 06/2013; PackageReference: LQFP48; PackageDescription: 48-Pin Low Profile Quad Flat Package, 7 x 7 mm Body, 0.5 mm Pitch; Supplier 1: Digi-Key; Supplier Part Number 1: STM32F100C6T6BTR-ND; Supplier 2: Newark; Supplier Part Number 2: 90R9216; Supplier 3: Mouser; Supplier Part Number 3: 511-STM32F100C6T6BTR; Core: ARM Cortex-M3; Packing: Tape and Reel; Mounting Technology: Surface Mount; ComponentLink1Description: Manufacturer URL; ComponentLink1URL: http://www.st.com/web/en/home.html; ComponentLink2Description: Datasheet; ComponentLink2URL: http://www.st.com/st-web-ui/static/active/en/resource/technical/document/datasheet/CD00251732.pdf; ComponentLink3Description: Package Specification; ComponentLink3URL: http://www.st.com/st-web-ui/static/active/en/resource/technical/document/datasheet/DM00058181.pdf
footprint STM-LQFP48_N (QFP, 48-Leads, Body 7x7mm, Pitch 0.5mm, IPC Medium Density)
footprint STM-LQFP48_L (QFP, 48-Leads, Body 7x7mm, Pitch 0.5mm, IPC High Density)
footprint STM-LQFP48_M (QFP, 48-Leads, Body 7x7mm, Pitch 0.5mm, IPC Low Density)
part A pins: 2 PC13-TAMPER-RTC (io) "PC13-TAMPER-RTC/PC13/TAMPER-RTC", 3 PC14-OSC32_IN (io) "PC14-OSC32_IN/PC14/OSC32_IN", 4 PC15-OSC32_OUT (io) "PC15-OSC32_OUT/PC15/OSC32_OUT", 5 PD0-OSC_IN (io) "PD0/OSC_IN", 6 PD1-OSC_OUT (io) "PD1/OSC_OUT", 7 NRST (io), 10 PA0-WKUP (io) "PA0-WKUP/PA0/WKUP/USART2_CTS/ADC1_IN0/TIM2_CH1_ETR", 11 PA1 (io) "PA1/USART2_RTS/ADC1_IN1/TIM2_CH2", 12 PA2 (io) "PA2/USART2_TX/ADC1_IN2/TIM2_CH3/TIM15_CH1", 13 PA3 (io) "PA3/USART2_RX/ADC1_IN3/TIM2_CH4/TIM15_CH2", 14 PA4 (io) "PA4/SPI1_NSS/ADC1_IN4/USART2_CK/DAC1_OUT", 15 PA5 (io) "PA5/SPI1_SCK/ADC1_IN5/DAC2_OUT", 16 PA6 (io) "PA6/SPI1_MISO/ADC1_IN6/TIM3_CH1/TIM1_BKIN/TIM16_CH1", 17 PA7 (io) "PA7/SPI1_MOSI/ADC1_IN7/TIM3_CH2/TIM1_CH1N/TIM17_CH1", 18 PB0 (io) "PB0/ADC1_IN8/TIM3_CH3/TIM1_CH2N", 19 PB1 (io) "PB1/ADC1_IN9/TIM3_CH4/TIM1_CH3N", 20 PB2 (io) "PB2/BOOT1", 21 PB10 (io) "PB10/I2C2_SCL/USART3_TX/TIM2_CH3/HDMI_CEC", 22 PB11 (io) "PB11/I2C2_SDA/USART3_RX/TIM2_CH4", 25 PB12 (io) "PB12/SPI2_NSS/I2C2_SMBA/TIM1_BKIN/USART3_CK", 26 PB13 (io) "PB13/SPI2_SCK/TIM1_CH1N/USART3_CTS", 27 PB14 (io) "PB14/SPI2_MISO/TIM1_CH2N/USART3_RTS/TIM15_CH1", 28 PB15 (io) "PB15/SPI2_MOSI/TIM1_CH3N/TIM15_CH1N/TIM15_CH2", 29 PA8 (io) "PA8/USART1_CK/MCO/TIM1_CH1", 30 PA9 (io) "PA9/USART1_TX/TIM1_CH2/TIM15_BKIN", 31 PA10 (io) "PA10/USART1_RX/TIM1_CH3/TIM17_BKIN", 32 PA11 (io) "PA11/USART1_CTS/TIM1_CH4", 33 PA12 (io) "PA12/USART1_RTS/TIM1_ETR", 34 PA13 (io) "PA13/JTMS-SWDIO", 37 PA14 (io) "PA14/JTCK/SWCLK", 38 PA15 (io) "PA15/JTDI/TIM2_CH1_ETR/SPI1_NSS", 39 PB3 (io) "PB3/JTDO/TIM2_CH2/TRACESWO/SPI1_SCK", 40 PB4 (io) "PB4/NJTRST/TIM3_CH1/SPI1_MISO", 41 PB5 (io) "PB5/I2C1_SMBA/TIM16_BKIN/TIM3_CH2/SPI1_MOSI", 42 PB6 (io) "PB6/I2C1_SCL/TIM4_CH1/TIM16_CH1N/USART1_TX", 43 PB7 (io) "PB7/I2C1_SDA/TIM17_CH1N/TIM4_CH2/USART1_RX", 44 BOOT0 (in), 45 PB8 (io) "PB8/TIM4_CH3/TIM16_CH1/CEC/I2C1_SCL", 46 PB9 (io) "PB9/TIM4_CH4/TIM17_CH1/I2C1_SDA"
part B pins: 1 VBAT (power), 8 VSSA (power), 9 VDDA (power), 23 VSS_1 (power), 24 VDD_1 (power), 35 VSS_2 (power), 36 VDD_2 (power), 47 VSS_3 (power), 48 VDD_3 (power)

## STM32F100C6T7B
designator U?
ARM Cortex-M3 32-bit MCU, 32 KB Flash, 4 KB Internal RAM, 37 I/Os, 48-pin LQFP, -40 to 105 degC, Tray; PartNumber: STM32F100C6T7B; A/D Converter: 1x12-bit (10 Channel); D/A Converter: 2x12-bit (2 Channel); FLASH Size (Prog) (kB): 32; I/Os (High Current): 37; Internal RAM Size (kB): 4; Operating Frequency(F) (Processor speed) (MHz): 24; Supply Voltage(Vcc) min (V): 2; DatasheetVersion: Rev. 7; PackageVersion: Rev. 6, 06/2013; PackageReference: LQFP48; PackageDescription: 48-Pin Low Profile Quad Flat Package, 7 x 7 mm Body, 0.5 mm Pitch; Supplier 1: Digi-Key; Supplier Part Number 1: STM32F100C6T7B-ND; Supplier 2: Newark; Supplier Part Number 2: 66W7279; Supplier 3: Mouser; Supplier Part Number 3: 511-STM32F100C6T7B; Core: ARM Cortex-M3; Packing: Tray; Mounting Technology: Surface Mount; ComponentLink1Description: Manufacturer URL; ComponentLink1URL: http://www.st.com/web/en/home.html; ComponentLink2Description: Datasheet; ComponentLink2URL: http://www.st.com/st-web-ui/static/active/en/resource/technical/document/datasheet/CD00251732.pdf; ComponentLink3Description: Package Specification; ComponentLink3URL: http://www.st.com/st-web-ui/static/active/en/resource/technical/document/datasheet/DM00058181.pdf
footprint STM-LQFP48_N (QFP, 48-Leads, Body 7x7mm, Pitch 0.5mm, IPC Medium Density)
footprint STM-LQFP48_L (QFP, 48-Leads, Body 7x7mm, Pitch 0.5mm, IPC High Density)
footprint STM-LQFP48_M (QFP, 48-Leads, Body 7x7mm, Pitch 0.5mm, IPC Low Density)
part A pins: 2 PC13-TAMPER-RTC (io) "PC13-TAMPER-RTC/PC13/TAMPER-RTC", 3 PC14-OSC32_IN (io) "PC14-OSC32_IN/PC14/OSC32_IN", 4 PC15-OSC32_OUT (io) "PC15-OSC32_OUT/PC15/OSC32_OUT", 5 PD0-OSC_IN (io) "PD0/OSC_IN", 6 PD1-OSC_OUT (io) "PD1/OSC_OUT", 7 NRST (io), 10 PA0-WKUP (io) "PA0-WKUP/PA0/WKUP/USART2_CTS/ADC1_IN0/TIM2_CH1_ETR", 11 PA1 (io) "PA1/USART2_RTS/ADC1_IN1/TIM2_CH2", 12 PA2 (io) "PA2/USART2_TX/ADC1_IN2/TIM2_CH3/TIM15_CH1", 13 PA3 (io) "PA3/USART2_RX/ADC1_IN3/TIM2_CH4/TIM15_CH2", 14 PA4 (io) "PA4/SPI1_NSS/ADC1_IN4/USART2_CK/DAC1_OUT", 15 PA5 (io) "PA5/SPI1_SCK/ADC1_IN5/DAC2_OUT", 16 PA6 (io) "PA6/SPI1_MISO/ADC1_IN6/TIM3_CH1/TIM1_BKIN/TIM16_CH1", 17 PA7 (io) "PA7/SPI1_MOSI/ADC1_IN7/TIM3_CH2/TIM1_CH1N/TIM17_CH1", 18 PB0 (io) "PB0/ADC1_IN8/TIM3_CH3/TIM1_CH2N", 19 PB1 (io) "PB1/ADC1_IN9/TIM3_CH4/TIM1_CH3N", 20 PB2 (io) "PB2/BOOT1", 21 PB10 (io) "PB10/I2C2_SCL/USART3_TX/TIM2_CH3/HDMI_CEC", 22 PB11 (io) "PB11/I2C2_SDA/USART3_RX/TIM2_CH4", 25 PB12 (io) "PB12/SPI2_NSS/I2C2_SMBA/TIM1_BKIN/USART3_CK", 26 PB13 (io) "PB13/SPI2_SCK/TIM1_CH1N/USART3_CTS", 27 PB14 (io) "PB14/SPI2_MISO/TIM1_CH2N/USART3_RTS/TIM15_CH1", 28 PB15 (io) "PB15/SPI2_MOSI/TIM1_CH3N/TIM15_CH1N/TIM15_CH2", 29 PA8 (io) "PA8/USART1_CK/MCO/TIM1_CH1", 30 PA9 (io) "PA9/USART1_TX/TIM1_CH2/TIM15_BKIN", 31 PA10 (io) "PA10/USART1_RX/TIM1_CH3/TIM17_BKIN", 32 PA11 (io) "PA11/USART1_CTS/TIM1_CH4", 33 PA12 (io) "PA12/USART1_RTS/TIM1_ETR", 34 PA13 (io) "PA13/JTMS-SWDIO", 37 PA14 (io) "PA14/JTCK/SWCLK", 38 PA15 (io) "PA15/JTDI/TIM2_CH1_ETR/SPI1_NSS", 39 PB3 (io) "PB3/JTDO/TIM2_CH2/TRACESWO/SPI1_SCK", 40 PB4 (io) "PB4/NJTRST/TIM3_CH1/SPI1_MISO", 41 PB5 (io) "PB5/I2C1_SMBA/TIM16_BKIN/TIM3_CH2/SPI1_MOSI", 42 PB6 (io) "PB6/I2C1_SCL/TIM4_CH1/TIM16_CH1N/USART1_TX", 43 PB7 (io) "PB7/I2C1_SDA/TIM17_CH1N/TIM4_CH2/USART1_RX", 44 BOOT0 (in), 45 PB8 (io) "PB8/TIM4_CH3/TIM16_CH1/CEC/I2C1_SCL", 46 PB9 (io) "PB9/TIM4_CH4/TIM17_CH1/I2C1_SDA"
part B pins: 1 VBAT (power), 8 VSSA (power), 9 VDDA (power), 23 VSS_1 (power), 24 VDD_1 (power), 35 VSS_2 (power), 36 VDD_2 (power), 47 VSS_3 (power), 48 VDD_3 (power)

## STM32F100C8T6B
designator U?
ARM Cortex-M3 32-bit MCU, 64 KB Flash, 8 KB Internal RAM, 37 I/Os, 48-pin LQFP, -40 to 85 degC, Tray; PartNumber: STM32F100C8T6B; A/D Converter: 1x12-bit (10 Channel); D/A Converter: 2x12-bit (2 Channel); FLASH Size (Prog) (kB): 64; I/Os (High Current): 37; Internal RAM Size (kB): 8; Operating Frequency(F) (Processor speed) (MHz): 24; Supply Voltage(Vcc) min (V): 2; DatasheetVersion: Rev. 7; PackageVersion: Rev. 6, 06/2013; PackageReference: LQFP48; PackageDescription: 48-Pin Low Profile Quad Flat Package, 7 x 7 mm Body, 0.5 mm Pitch; Supplier 1: Digi-Key; Supplier Part Number 1: 497-10499-ND; Supplier 2: Farnell; Supplier Part Number 2: 1838511; Supplier 3: Newark; Supplier Part Number 3: 76R0988; Supplier 4: Mouser; Supplier Part Number 4: 511-STM32F100C8T6B; Core: ARM Cortex-M3; Packing: Tray; Mounting Technology: Surface Mount; ComponentLink1Description: Manufacturer URL; ComponentLink1URL: http://www.st.com/web/en/home.html; ComponentLink2Description: Datasheet; ComponentLink2URL: http://www.st.com/st-web-ui/static/active/en/resource/technical/document/datasheet/CD00251732.pdf; ComponentLink3Description: Package Specification; ComponentLink3URL: http://www.st.com/st-web-ui/static/active/en/resource/technical/document/datasheet/DM00058181.pdf
footprint STM-LQFP48_N (QFP, 48-Leads, Body 7x7mm, Pitch 0.5mm, IPC Medium Density)
footprint STM-LQFP48_L (QFP, 48-Leads, Body 7x7mm, Pitch 0.5mm, IPC High Density)
footprint STM-LQFP48_M (QFP, 48-Leads, Body 7x7mm, Pitch 0.5mm, IPC Low Density)
part A pins: 2 PC13-TAMPER-RTC (io) "PC13-TAMPER-RTC/PC13/TAMPER-RTC", 3 PC14-OSC32_IN (io) "PC14-OSC32_IN/PC14/OSC32_IN", 4 PC15-OSC32_OUT (io) "PC15-OSC32_OUT/PC15/OSC32_OUT", 5 PD0-OSC_IN (io) "PD0/OSC_IN", 6 PD1-OSC_OUT (io) "PD1/OSC_OUT", 7 NRST (io), 10 PA0-WKUP (io) "PA0-WKUP/PA0/WKUP/USART2_CTS/ADC1_IN0/TIM2_CH1_ETR", 11 PA1 (io) "PA1/USART2_RTS/ADC1_IN1/TIM2_CH2", 12 PA2 (io) "PA2/USART2_TX/ADC1_IN2/TIM2_CH3/TIM15_CH1", 13 PA3 (io) "PA3/USART2_RX/ADC1_IN3/TIM2_CH4/TIM15_CH2", 14 PA4 (io) "PA4/SPI1_NSS/ADC1_IN4/USART2_CK/DAC1_OUT", 15 PA5 (io) "PA5/SPI1_SCK/ADC1_IN5/DAC2_OUT", 16 PA6 (io) "PA6/SPI1_MISO/ADC1_IN6/TIM3_CH1/TIM1_BKIN/TIM16_CH1", 17 PA7 (io) "PA7/SPI1_MOSI/ADC1_IN7/TIM3_CH2/TIM1_CH1N/TIM17_CH1", 18 PB0 (io) "PB0/ADC1_IN8/TIM3_CH3/TIM1_CH2N", 19 PB1 (io) "PB1/ADC1_IN9/TIM3_CH4/TIM1_CH3N", 20 PB2 (io) "PB2/BOOT1", 21 PB10 (io) "PB10/I2C2_SCL/USART3_TX/TIM2_CH3/HDMI_CEC", 22 PB11 (io) "PB11/I2C2_SDA/USART3_RX/TIM2_CH4", 25 PB12 (io) "PB12/SPI2_NSS/I2C2_SMBA/TIM1_BKIN/USART3_CK", 26 PB13 (io) "PB13/SPI2_SCK/TIM1_CH1N/USART3_CTS", 27 PB14 (io) "PB14/SPI2_MISO/TIM1_CH2N/USART3_RTS/TIM15_CH1", 28 PB15 (io) "PB15/SPI2_MOSI/TIM1_CH3N/TIM15_CH1N/TIM15_CH2", 29 PA8 (io) "PA8/USART1_CK/MCO/TIM1_CH1", 30 PA9 (io) "PA9/USART1_TX/TIM1_CH2/TIM15_BKIN", 31 PA10 (io) "PA10/USART1_RX/TIM1_CH3/TIM17_BKIN", 32 PA11 (io) "PA11/USART1_CTS/TIM1_CH4", 33 PA12 (io) "PA12/USART1_RTS/TIM1_ETR", 34 PA13 (io) "PA13/JTMS-SWDIO", 37 PA14 (io) "PA14/JTCK/SWCLK", 38 PA15 (io) "PA15/JTDI/TIM2_CH1_ETR/SPI1_NSS", 39 PB3 (io) "PB3/JTDO/TIM2_CH2/TRACESWO/SPI1_SCK", 40 PB4 (io) "PB4/NJTRST/TIM3_CH1/SPI1_MISO", 41 PB5 (io) "PB5/I2C1_SMBA/TIM16_BKIN/TIM3_CH2/SPI1_MOSI", 42 PB6 (io) "PB6/I2C1_SCL/TIM4_CH1/TIM16_CH1N/USART1_TX", 43 PB7 (io) "PB7/I2C1_SDA/TIM17_CH1N/TIM4_CH2/USART1_RX", 44 BOOT0 (in), 45 PB8 (io) "PB8/TIM4_CH3/TIM16_CH1/CEC/I2C1_SCL", 46 PB9 (io) "PB9/TIM4_CH4/TIM17_CH1/I2C1_SDA"
part B pins: 1 VBAT (power), 8 VSSA (power), 9 VDDA (power), 23 VSS_1 (power), 24 VDD_1 (power), 35 VSS_2 (power), 36 VDD_2 (power), 47 VSS_3 (power), 48 VDD_3 (power)

## STM32F100C8T6BTR
designator U?
ARM Cortex-M3 32-bit MCU, 64 KB Flash, 8 KB Internal RAM, 37 I/Os, 48-pin LQFP, -40 to 85 degC, Tape and Reel; PartNumber: STM32F100C8T6BTR; A/D Converter: 1x12-bit (10 Channel); D/A Converter: 2x12-bit (2 Channel); FLASH Size (Prog) (kB): 64; I/Os (High Current): 37; Internal RAM Size (kB): 8; Operating Frequency(F) (Processor speed) (MHz): 24; Supply Voltage(Vcc) min (V): 2; DatasheetVersion: Rev. 7; PackageVersion: Rev. 6, 06/2013; PackageReference: LQFP48; PackageDescription: 48-Pin Low Profile Quad Flat Package, 7 x 7 mm Body, 0.5 mm Pitch; Supplier 1: Digi-Key; Supplier Part Number 1: STM32F100C8T6BTR-ND; Supplier 2: Mouser; Supplier Part Number 2: 511-STM32F100C8T6BTR; Core: ARM Cortex-M3; Packing: Tape and Reel; Mounting Technology: Surface Mount; ComponentLink1Description: Manufacturer URL; ComponentLink1URL: http://www.st.com/web/en/home.html; ComponentLink2Description: Datasheet; ComponentLink2URL: http://www.st.com/st-web-ui/static/active/en/resource/technical/document/datasheet/CD00251732.pdf; ComponentLink3Description: Package Specification; ComponentLink3URL: http://www.st.com/st-web-ui/static/active/en/resource/technical/document/datasheet/DM00058181.pdf
footprint STM-LQFP48_N (QFP, 48-Leads, Body 7x7mm, Pitch 0.5mm, IPC Medium Density)
footprint STM-LQFP48_L (QFP, 48-Leads, Body 7x7mm, Pitch 0.5mm, IPC High Density)
footprint STM-LQFP48_M (QFP, 48-Leads, Body 7x7mm, Pitch 0.5mm, IPC Low Density)
part A pins: 2 PC13-TAMPER-RTC (io) "PC13-TAMPER-RTC/PC13/TAMPER-RTC", 3 PC14-OSC32_IN (io) "PC14-OSC32_IN/PC14/OSC32_IN", 4 PC15-OSC32_OUT (io) "PC15-OSC32_OUT/PC15/OSC32_OUT", 5 PD0-OSC_IN (io) "PD0/OSC_IN", 6 PD1-OSC_OUT (io) "PD1/OSC_OUT", 7 NRST (io), 10 PA0-WKUP (io) "PA0-WKUP/PA0/WKUP/USART2_CTS/ADC1_IN0/TIM2_CH1_ETR", 11 PA1 (io) "PA1/USART2_RTS/ADC1_IN1/TIM2_CH2", 12 PA2 (io) "PA2/USART2_TX/ADC1_IN2/TIM2_CH3/TIM15_CH1", 13 PA3 (io) "PA3/USART2_RX/ADC1_IN3/TIM2_CH4/TIM15_CH2", 14 PA4 (io) "PA4/SPI1_NSS/ADC1_IN4/USART2_CK/DAC1_OUT", 15 PA5 (io) "PA5/SPI1_SCK/ADC1_IN5/DAC2_OUT", 16 PA6 (io) "PA6/SPI1_MISO/ADC1_IN6/TIM3_CH1/TIM1_BKIN/TIM16_CH1", 17 PA7 (io) "PA7/SPI1_MOSI/ADC1_IN7/TIM3_CH2/TIM1_CH1N/TIM17_CH1", 18 PB0 (io) "PB0/ADC1_IN8/TIM3_CH3/TIM1_CH2N", 19 PB1 (io) "PB1/ADC1_IN9/TIM3_CH4/TIM1_CH3N", 20 PB2 (io) "PB2/BOOT1", 21 PB10 (io) "PB10/I2C2_SCL/USART3_TX/TIM2_CH3/HDMI_CEC", 22 PB11 (io) "PB11/I2C2_SDA/USART3_RX/TIM2_CH4", 25 PB12 (io) "PB12/SPI2_NSS/I2C2_SMBA/TIM1_BKIN/USART3_CK", 26 PB13 (io) "PB13/SPI2_SCK/TIM1_CH1N/USART3_CTS", 27 PB14 (io) "PB14/SPI2_MISO/TIM1_CH2N/USART3_RTS/TIM15_CH1", 28 PB15 (io) "PB15/SPI2_MOSI/TIM1_CH3N/TIM15_CH1N/TIM15_CH2", 29 PA8 (io) "PA8/USART1_CK/MCO/TIM1_CH1", 30 PA9 (io) "PA9/USART1_TX/TIM1_CH2/TIM15_BKIN", 31 PA10 (io) "PA10/USART1_RX/TIM1_CH3/TIM17_BKIN", 32 PA11 (io) "PA11/USART1_CTS/TIM1_CH4", 33 PA12 (io) "PA12/USART1_RTS/TIM1_ETR", 34 PA13 (io) "PA13/JTMS-SWDIO", 37 PA14 (io) "PA14/JTCK/SWCLK", 38 PA15 (io) "PA15/JTDI/TIM2_CH1_ETR/SPI1_NSS", 39 PB3 (io) "PB3/JTDO/TIM2_CH2/TRACESWO/SPI1_SCK", 40 PB4 (io) "PB4/NJTRST/TIM3_CH1/SPI1_MISO", 41 PB5 (io) "PB5/I2C1_SMBA/TIM16_BKIN/TIM3_CH2/SPI1_MOSI", 42 PB6 (io) "PB6/I2C1_SCL/TIM4_CH1/TIM16_CH1N/USART1_TX", 43 PB7 (io) "PB7/I2C1_SDA/TIM17_CH1N/TIM4_CH2/USART1_RX", 44 BOOT0 (in), 45 PB8 (io) "PB8/TIM4_CH3/TIM16_CH1/CEC/I2C1_SCL", 46 PB9 (io) "PB9/TIM4_CH4/TIM17_CH1/I2C1_SDA"
part B pins: 1 VBAT (power), 8 VSSA (power), 9 VDDA (power), 23 VSS_1 (power), 24 VDD_1 (power), 35 VSS_2 (power), 36 VDD_2 (power), 47 VSS_3 (power), 48 VDD_3 (power)

## STM32F100C8T7B
designator U?
ARM Cortex-M3 32-bit MCU, 64 KB Flash, 8 KB Internal RAM, 37 I/Os, 48-pin LQFP, -40 to 105 degC, Tray; PartNumber: STM32F100C8T7B; A/D Converter: 1x12-bit (10 Channel); D/A Converter: 2x12-bit (2 Channel); FLASH Size (Prog) (kB): 64; I/Os (High Current): 37; Internal RAM Size (kB): 8; Operating Frequency(F) (Processor speed) (MHz): 24; Supply Voltage(Vcc) min (V): 2; DatasheetVersion: Rev. 7; PackageVersion: Rev. 6, 06/2013; PackageReference: LQFP48; PackageDescription: 48-Pin Low Profile Quad Flat Package, 7 x 7 mm Body, 0.5 mm Pitch; Supplier 1: Digi-Key; Supplier Part Number 1: STM32F100C8T7B-ND; Supplier 2: Farnell; Supplier Part Number 2: 2333142; Supplier 3: Newark; Supplier Part Number 3: 99W9763; Supplier 4: Newark; Supplier Part Number 4: 73T2291; Supplier 5: Mouser; Supplier Part Number 5: 511-STM32F100C8T7B; Core: ARM Cortex-M3; Packing: Tray; Mounting Technology: Surface Mount; ComponentLink1Description: Manufacturer URL; ComponentLink1URL: http://www.st.com/web/en/home.html; ComponentLink2Description: Datasheet; ComponentLink2URL: http://www.st.com/st-web-ui/static/active/en/resource/technical/document/datasheet/CD00251732.pdf; ComponentLink3Description: Package Specification; ComponentLink3URL: http://www.st.com/st-web-ui/static/active/en/resource/technical/document/datasheet/DM00058181.pdf
footprint STM-LQFP48_N (QFP, 48-Leads, Body 7x7mm, Pitch 0.5mm, IPC Medium Density)
footprint STM-LQFP48_L (QFP, 48-Leads, Body 7x7mm, Pitch 0.5mm, IPC High Density)
footprint STM-LQFP48_M (QFP, 48-Leads, Body 7x7mm, Pitch 0.5mm, IPC Low Density)
part A pins: 2 PC13-TAMPER-RTC (io) "PC13-TAMPER-RTC/PC13/TAMPER-RTC", 3 PC14-OSC32_IN (io) "PC14-OSC32_IN/PC14/OSC32_IN", 4 PC15-OSC32_OUT (io) "PC15-OSC32_OUT/PC15/OSC32_OUT", 5 PD0-OSC_IN (io) "PD0/OSC_IN", 6 PD1-OSC_OUT (io) "PD1/OSC_OUT", 7 NRST (io), 10 PA0-WKUP (io) "PA0-WKUP/PA0/WKUP/USART2_CTS/ADC1_IN0/TIM2_CH1_ETR", 11 PA1 (io) "PA1/USART2_RTS/ADC1_IN1/TIM2_CH2", 12 PA2 (io) "PA2/USART2_TX/ADC1_IN2/TIM2_CH3/TIM15_CH1", 13 PA3 (io) "PA3/USART2_RX/ADC1_IN3/TIM2_CH4/TIM15_CH2", 14 PA4 (io) "PA4/SPI1_NSS/ADC1_IN4/USART2_CK/DAC1_OUT", 15 PA5 (io) "PA5/SPI1_SCK/ADC1_IN5/DAC2_OUT", 16 PA6 (io) "PA6/SPI1_MISO/ADC1_IN6/TIM3_CH1/TIM1_BKIN/TIM16_CH1", 17 PA7 (io) "PA7/SPI1_MOSI/ADC1_IN7/TIM3_CH2/TIM1_CH1N/TIM17_CH1", 18 PB0 (io) "PB0/ADC1_IN8/TIM3_CH3/TIM1_CH2N", 19 PB1 (io) "PB1/ADC1_IN9/TIM3_CH4/TIM1_CH3N", 20 PB2 (io) "PB2/BOOT1", 21 PB10 (io) "PB10/I2C2_SCL/USART3_TX/TIM2_CH3/HDMI_CEC", 22 PB11 (io) "PB11/I2C2_SDA/USART3_RX/TIM2_CH4", 25 PB12 (io) "PB12/SPI2_NSS/I2C2_SMBA/TIM1_BKIN/USART3_CK", 26 PB13 (io) "PB13/SPI2_SCK/TIM1_CH1N/USART3_CTS", 27 PB14 (io) "PB14/SPI2_MISO/TIM1_CH2N/USART3_RTS/TIM15_CH1", 28 PB15 (io) "PB15/SPI2_MOSI/TIM1_CH3N/TIM15_CH1N/TIM15_CH2", 29 PA8 (io) "PA8/USART1_CK/MCO/TIM1_CH1", 30 PA9 (io) "PA9/USART1_TX/TIM1_CH2/TIM15_BKIN", 31 PA10 (io) "PA10/USART1_RX/TIM1_CH3/TIM17_BKIN", 32 PA11 (io) "PA11/USART1_CTS/TIM1_CH4", 33 PA12 (io) "PA12/USART1_RTS/TIM1_ETR", 34 PA13 (io) "PA13/JTMS-SWDIO", 37 PA14 (io) "PA14/JTCK/SWCLK", 38 PA15 (io) "PA15/JTDI/TIM2_CH1_ETR/SPI1_NSS", 39 PB3 (io) "PB3/JTDO/TIM2_CH2/TRACESWO/SPI1_SCK", 40 PB4 (io) "PB4/NJTRST/TIM3_CH1/SPI1_MISO", 41 PB5 (io) "PB5/I2C1_SMBA/TIM16_BKIN/TIM3_CH2/SPI1_MOSI", 42 PB6 (io) "PB6/I2C1_SCL/TIM4_CH1/TIM16_CH1N/USART1_TX", 43 PB7 (io) "PB7/I2C1_SDA/TIM17_CH1N/TIM4_CH2/USART1_RX", 44 BOOT0 (in), 45 PB8 (io) "PB8/TIM4_CH3/TIM16_CH1/CEC/I2C1_SCL", 46 PB9 (io) "PB9/TIM4_CH4/TIM17_CH1/I2C1_SDA"
part B pins: 1 VBAT (power), 8 VSSA (power), 9 VDDA (power), 23 VSS_1 (power), 24 VDD_1 (power), 35 VSS_2 (power), 36 VDD_2 (power), 47 VSS_3 (power), 48 VDD_3 (power)

## STM32F100C8T7BTR
designator U?
ARM Cortex-M3 32-bit MCU, 64 KB Flash, 8 KB Internal RAM, 37 I/Os, 48-pin LQFP, -40 to 105 degC, Tape and Reel; PartNumber: STM32F100C8T7BTR; A/D Converter: 1x12-bit (10 Channel); D/A Converter: 2x12-bit (2 Channel); FLASH Size (Prog) (kB): 64; I/Os (High Current): 37; Internal RAM Size (kB): 8; Operating Frequency(F) (Processor speed) (MHz): 24; Supply Voltage(Vcc) min (V): 2; DatasheetVersion: Rev. 7; PackageVersion: Rev. 6, 06/2013; PackageReference: LQFP48; PackageDescription: 48-Pin Low Profile Quad Flat Package, 7 x 7 mm Body, 0.5 mm Pitch; Supplier 1: Digi-Key; Supplier Part Number 1: STM32F100C8T7BTR-ND; Supplier 2: Mouser; Supplier Part Number 2: 511-STM32F100C8T7BTR; Core: ARM Cortex-M3; Packing: Tape and Reel; Mounting Technology: Surface Mount; ComponentLink1Description: Manufacturer URL; ComponentLink1URL: http://www.st.com/web/en/home.html; ComponentLink2Description: Datasheet; ComponentLink2URL: http://www.st.com/st-web-ui/static/active/en/resource/technical/document/datasheet/CD00251732.pdf; ComponentLink3Description: Package Specification; ComponentLink3URL: http://www.st.com/st-web-ui/static/active/en/resource/technical/document/datasheet/DM00058181.pdf
footprint STM-LQFP48_N (QFP, 48-Leads, Body 7x7mm, Pitch 0.5mm, IPC Medium Density)
footprint STM-LQFP48_L (QFP, 48-Leads, Body 7x7mm, Pitch 0.5mm, IPC High Density)
footprint STM-LQFP48_M (QFP, 48-Leads, Body 7x7mm, Pitch 0.5mm, IPC Low Density)
part A pins: 2 PC13-TAMPER-RTC (io) "PC13-TAMPER-RTC/PC13/TAMPER-RTC", 3 PC14-OSC32_IN (io) "PC14-OSC32_IN/PC14/OSC32_IN", 4 PC15-OSC32_OUT (io) "PC15-OSC32_OUT/PC15/OSC32_OUT", 5 PD0-OSC_IN (io) "PD0/OSC_IN", 6 PD1-OSC_OUT (io) "PD1/OSC_OUT", 7 NRST (io), 10 PA0-WKUP (io) "PA0-WKUP/PA0/WKUP/USART2_CTS/ADC1_IN0/TIM2_CH1_ETR", 11 PA1 (io) "PA1/USART2_RTS/ADC1_IN1/TIM2_CH2", 12 PA2 (io) "PA2/USART2_TX/ADC1_IN2/TIM2_CH3/TIM15_CH1", 13 PA3 (io) "PA3/USART2_RX/ADC1_IN3/TIM2_CH4/TIM15_CH2", 14 PA4 (io) "PA4/SPI1_NSS/ADC1_IN4/USART2_CK/DAC1_OUT", 15 PA5 (io) "PA5/SPI1_SCK/ADC1_IN5/DAC2_OUT", 16 PA6 (io) "PA6/SPI1_MISO/ADC1_IN6/TIM3_CH1/TIM1_BKIN/TIM16_CH1", 17 PA7 (io) "PA7/SPI1_MOSI/ADC1_IN7/TIM3_CH2/TIM1_CH1N/TIM17_CH1", 18 PB0 (io) "PB0/ADC1_IN8/TIM3_CH3/TIM1_CH2N", 19 PB1 (io) "PB1/ADC1_IN9/TIM3_CH4/TIM1_CH3N", 20 PB2 (io) "PB2/BOOT1", 21 PB10 (io) "PB10/I2C2_SCL/USART3_TX/TIM2_CH3/HDMI_CEC", 22 PB11 (io) "PB11/I2C2_SDA/USART3_RX/TIM2_CH4", 25 PB12 (io) "PB12/SPI2_NSS/I2C2_SMBA/TIM1_BKIN/USART3_CK", 26 PB13 (io) "PB13/SPI2_SCK/TIM1_CH1N/USART3_CTS", 27 PB14 (io) "PB14/SPI2_MISO/TIM1_CH2N/USART3_RTS/TIM15_CH1", 28 PB15 (io) "PB15/SPI2_MOSI/TIM1_CH3N/TIM15_CH1N/TIM15_CH2", 29 PA8 (io) "PA8/USART1_CK/MCO/TIM1_CH1", 30 PA9 (io) "PA9/USART1_TX/TIM1_CH2/TIM15_BKIN", 31 PA10 (io) "PA10/USART1_RX/TIM1_CH3/TIM17_BKIN", 32 PA11 (io) "PA11/USART1_CTS/TIM1_CH4", 33 PA12 (io) "PA12/USART1_RTS/TIM1_ETR", 34 PA13 (io) "PA13/JTMS-SWDIO", 37 PA14 (io) "PA14/JTCK/SWCLK", 38 PA15 (io) "PA15/JTDI/TIM2_CH1_ETR/SPI1_NSS", 39 PB3 (io) "PB3/JTDO/TIM2_CH2/TRACESWO/SPI1_SCK", 40 PB4 (io) "PB4/NJTRST/TIM3_CH1/SPI1_MISO", 41 PB5 (io) "PB5/I2C1_SMBA/TIM16_BKIN/TIM3_CH2/SPI1_MOSI", 42 PB6 (io) "PB6/I2C1_SCL/TIM4_CH1/TIM16_CH1N/USART1_TX", 43 PB7 (io) "PB7/I2C1_SDA/TIM17_CH1N/TIM4_CH2/USART1_RX", 44 BOOT0 (in), 45 PB8 (io) "PB8/TIM4_CH3/TIM16_CH1/CEC/I2C1_SCL", 46 PB9 (io) "PB9/TIM4_CH4/TIM17_CH1/I2C1_SDA"
part B pins: 1 VBAT (power), 8 VSSA (power), 9 VDDA (power), 23 VSS_1 (power), 24 VDD_1 (power), 35 VSS_2 (power), 36 VDD_2 (power), 47 VSS_3 (power), 48 VDD_3 (power)

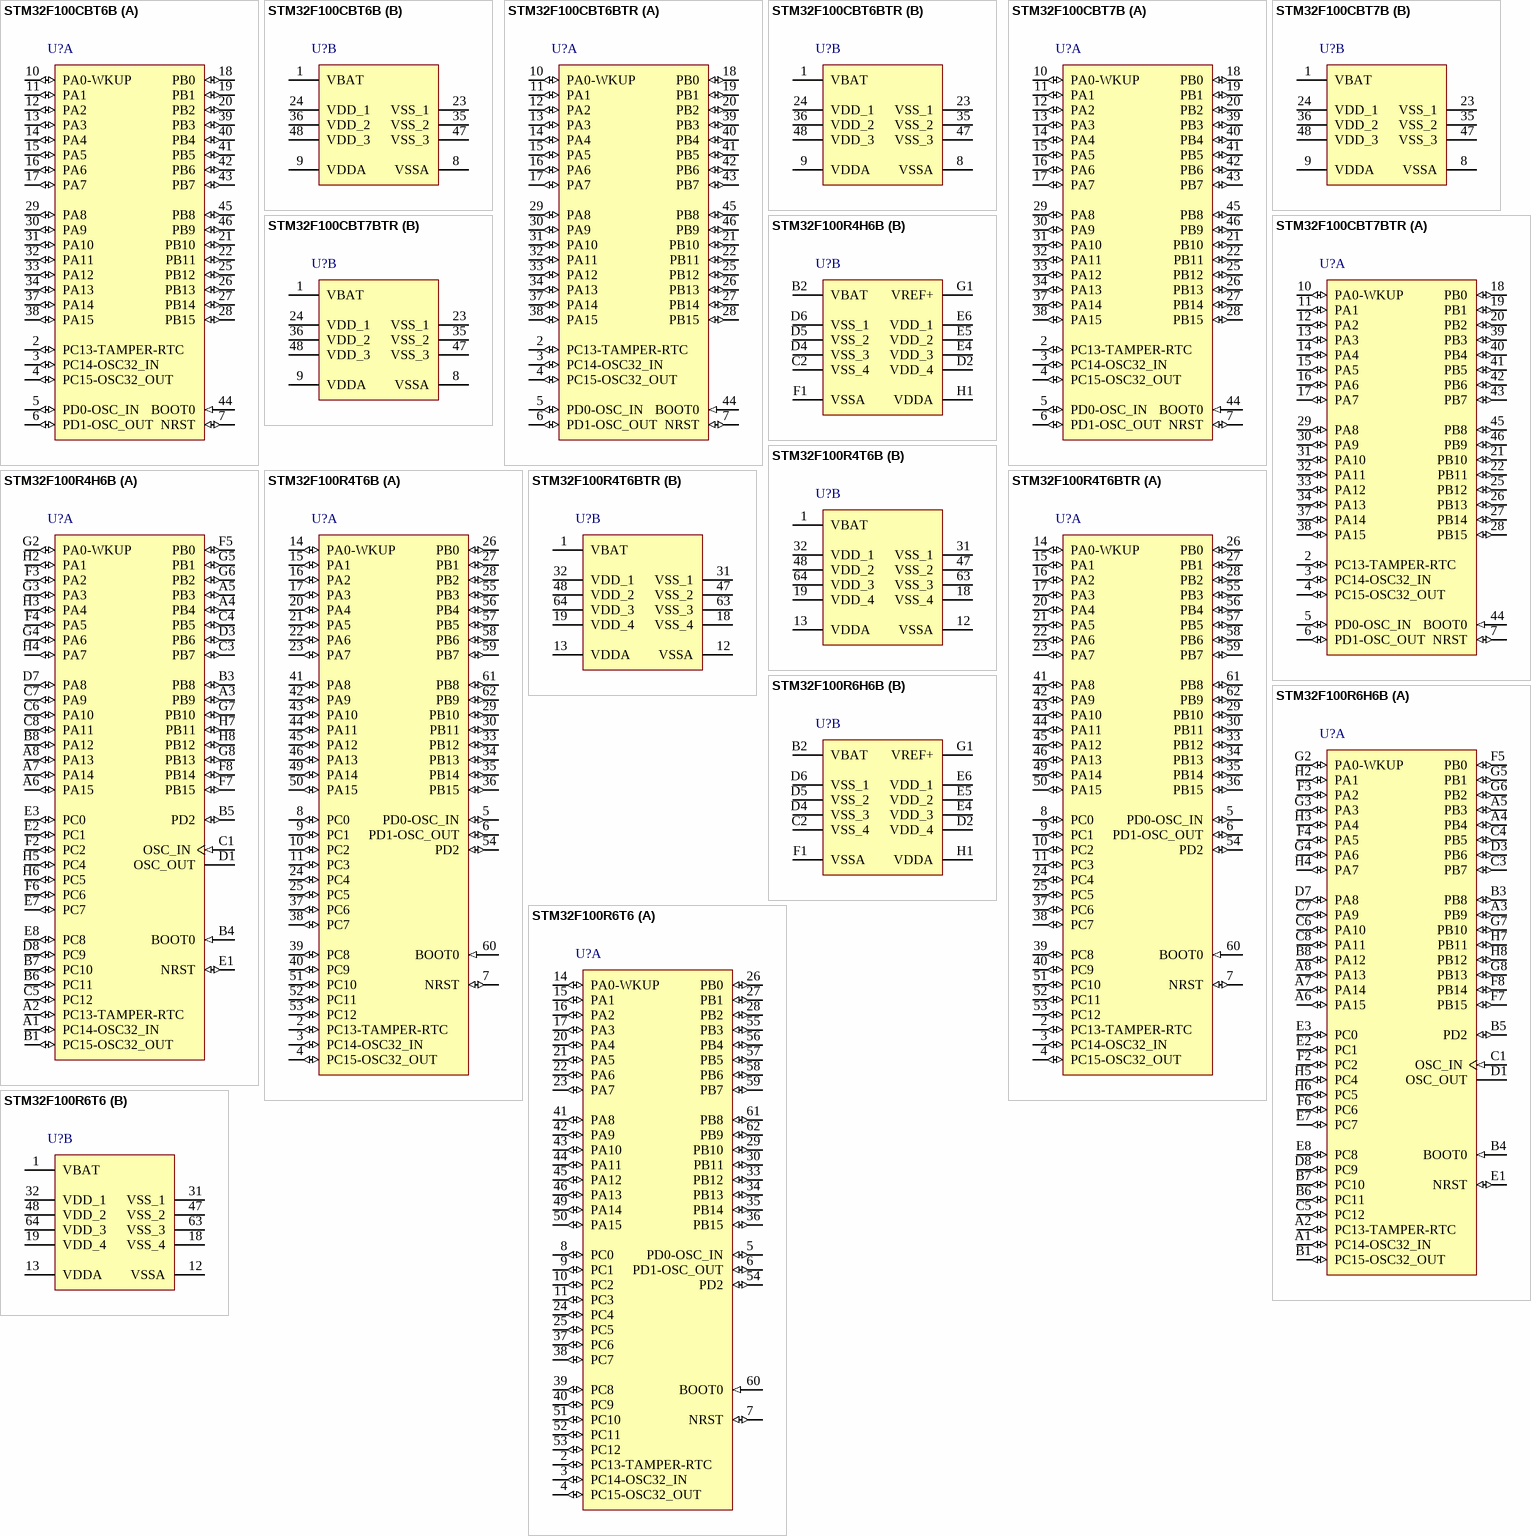
[diagram p8: symbols STM32F100CBT6B to STM32F100R6T6]

## STM32F100CBT6B
designator U?
ARM Cortex-M3 32-bit MCU, 128 KB Flash, 8 KB Internal RAM, 37 I/Os, 48-pin LQFP, -40 to 85 degC, Tray; PartNumber: STM32F100CBT6B; A/D Converter: 1x12-bit (10 Channel); D/A Converter: 2x12-bit (2 Channel); FLASH Size (Prog) (kB): 128; I/Os (High Current): 37; Internal RAM Size (kB): 8; Operating Frequency(F) (Processor speed) (MHz): 24; Supply Voltage(Vcc) min (V): 2; DatasheetVersion: Rev. 7; PackageVersion: Rev. 6, 06/2013; PackageReference: LQFP48; PackageDescription: 48-Pin Low Profile Quad Flat Package, 7 x 7 mm Body, 0.5 mm Pitch; Supplier 1: Digi-Key; Supplier Part Number 1: 497-10498-ND; Supplier 2: Farnell; Supplier Part Number 2: 1838512; Supplier 3: Newark; Supplier Part Number 3: 86R1308; Supplier 4: Newark; Supplier Part Number 4: 76R0985; Supplier 5: Mouser; Supplier Part Number 5: 511-STM32F100CBT6B; Core: ARM Cortex-M3; Packing: Tray; Mounting Technology: Surface Mount; ComponentLink1Description: Manufacturer URL; ComponentLink1URL: http://www.st.com/web/en/home.html; ComponentLink2Description: Datasheet; ComponentLink2URL: http://www.st.com/st-web-ui/static/active/en/resource/technical/document/datasheet/CD00251732.pdf; ComponentLink3Description: Package Specification; ComponentLink3URL: http://www.st.com/st-web-ui/static/active/en/resource/technical/document/datasheet/DM00058181.pdf
footprint STM-LQFP48_N (QFP, 48-Leads, Body 7x7mm, Pitch 0.5mm, IPC Medium Density)
footprint STM-LQFP48_L (QFP, 48-Leads, Body 7x7mm, Pitch 0.5mm, IPC High Density)
footprint STM-LQFP48_M (QFP, 48-Leads, Body 7x7mm, Pitch 0.5mm, IPC Low Density)
part A pins: 2 PC13-TAMPER-RTC (io) "PC13-TAMPER-RTC/PC13/TAMPER-RTC", 3 PC14-OSC32_IN (io) "PC14-OSC32_IN/PC14/OSC32_IN", 4 PC15-OSC32_OUT (io) "PC15-OSC32_OUT/PC15/OSC32_OUT", 5 PD0-OSC_IN (io) "PD0/OSC_IN", 6 PD1-OSC_OUT (io) "PD1/OSC_OUT", 7 NRST (io), 10 PA0-WKUP (io) "PA0-WKUP/PA0/WKUP/USART2_CTS/ADC1_IN0/TIM2_CH1_ETR", 11 PA1 (io) "PA1/USART2_RTS/ADC1_IN1/TIM2_CH2", 12 PA2 (io) "PA2/USART2_TX/ADC1_IN2/TIM2_CH3/TIM15_CH1", 13 PA3 (io) "PA3/USART2_RX/ADC1_IN3/TIM2_CH4/TIM15_CH2", 14 PA4 (io) "PA4/SPI1_NSS/ADC1_IN4/USART2_CK/DAC1_OUT", 15 PA5 (io) "PA5/SPI1_SCK/ADC1_IN5/DAC2_OUT", 16 PA6 (io) "PA6/SPI1_MISO/ADC1_IN6/TIM3_CH1/TIM1_BKIN/TIM16_CH1", 17 PA7 (io) "PA7/SPI1_MOSI/ADC1_IN7/TIM3_CH2/TIM1_CH1N/TIM17_CH1", 18 PB0 (io) "PB0/ADC1_IN8/TIM3_CH3/TIM1_CH2N", 19 PB1 (io) "PB1/ADC1_IN9/TIM3_CH4/TIM1_CH3N", 20 PB2 (io) "PB2/BOOT1", 21 PB10 (io) "PB10/I2C2_SCL/USART3_TX/TIM2_CH3/HDMI_CEC", 22 PB11 (io) "PB11/I2C2_SDA/USART3_RX/TIM2_CH4", 25 PB12 (io) "PB12/SPI2_NSS/I2C2_SMBA/TIM1_BKIN/USART3_CK", 26 PB13 (io) "PB13/SPI2_SCK/TIM1_CH1N/USART3_CTS", 27 PB14 (io) "PB14/SPI2_MISO/TIM1_CH2N/USART3_RTS/TIM15_CH1", 28 PB15 (io) "PB15/SPI2_MOSI/TIM1_CH3N/TIM15_CH1N/TIM15_CH2", 29 PA8 (io) "PA8/USART1_CK/MCO/TIM1_CH1", 30 PA9 (io) "PA9/USART1_TX/TIM1_CH2/TIM15_BKIN", 31 PA10 (io) "PA10/USART1_RX/TIM1_CH3/TIM17_BKIN", 32 PA11 (io) "PA11/USART1_CTS/TIM1_CH4", 33 PA12 (io) "PA12/USART1_RTS/TIM1_ETR", 34 PA13 (io) "PA13/JTMS-SWDIO", 37 PA14 (io) "PA14/JTCK/SWCLK", 38 PA15 (io) "PA15/JTDI/TIM2_CH1_ETR/SPI1_NSS", 39 PB3 (io) "PB3/JTDO/TIM2_CH2/TRACESWO/SPI1_SCK", 40 PB4 (io) "PB4/NJTRST/TIM3_CH1/SPI1_MISO", 41 PB5 (io) "PB5/I2C1_SMBA/TIM16_BKIN/TIM3_CH2/SPI1_MOSI", 42 PB6 (io) "PB6/I2C1_SCL/TIM4_CH1/TIM16_CH1N/USART1_TX", 43 PB7 (io) "PB7/I2C1_SDA/TIM17_CH1N/TIM4_CH2/USART1_RX", 44 BOOT0 (in), 45 PB8 (io) "PB8/TIM4_CH3/TIM16_CH1/CEC/I2C1_SCL", 46 PB9 (io) "PB9/TIM4_CH4/TIM17_CH1/I2C1_SDA"
part B pins: 1 VBAT (power), 8 VSSA (power), 9 VDDA (power), 23 VSS_1 (power), 24 VDD_1 (power), 35 VSS_2 (power), 36 VDD_2 (power), 47 VSS_3 (power), 48 VDD_3 (power)